# Altium schematic symbol library U.SchLib: 98 symbols (part 1 of 2)
Pins are listed as number, name and electrical type; pins without a type are passive.

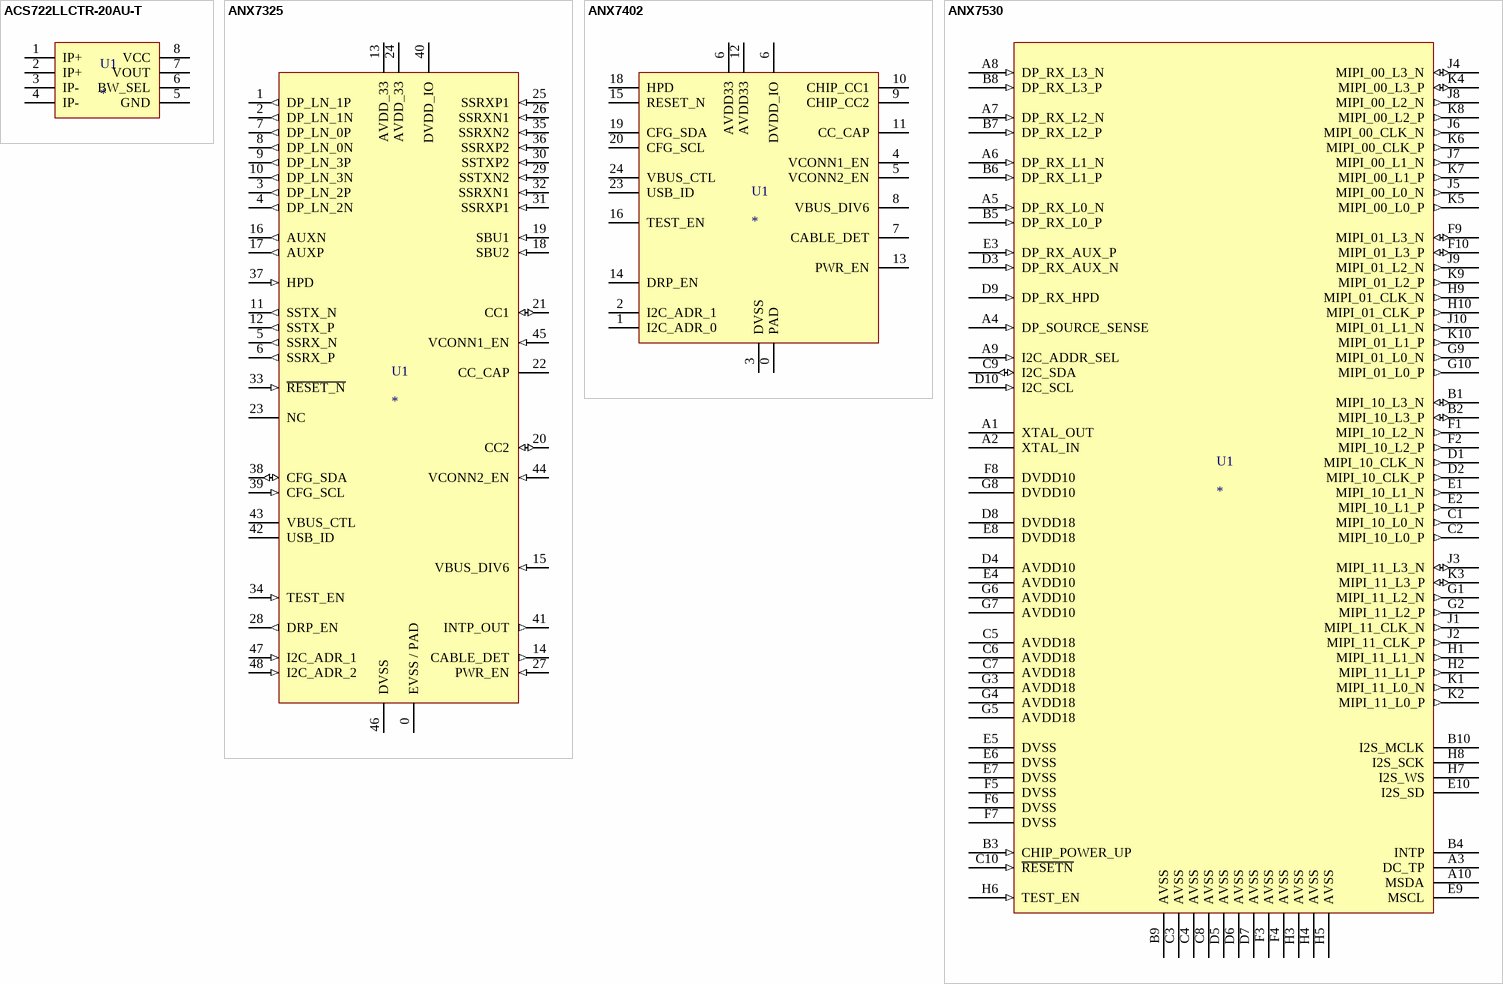
[diagram p0: symbols ACS722LLCTR-20AU-T to ANX7530]

## ACS722LLCTR-20AU-T
designator U1
20A Hall Current Sensor
footprint SOIC-8
pins: 1 IP+, 2 IP+, 3 IP-, 4 IP-, 5 GND, 6 BW_SEL, 7 VOUT, 8 VCC

## ANX7325
designator U1
USB-C™ Accessory/HDTV/Monitor Receptacle  Crosspoint Switch with On-chip  Microcontroller
footprint QFN-48 - P0.4mm (QFN48_0.4mm_Pitch)
pins: 0 EVSS / PAD, 1 DP_LN_1P (out), 2 DP_LN_1N (out), 3 DP_LN_2P (out), 4 DP_LN_2N (out), 5 SSRX_N (out), 6 SSRX_P (out), 7 DP_LN_0P (out), 8 DP_LN_0N (out), 9 DP_LN_3P (out), 10 DP_LN_3N (out), 11 SSTX_N (out), 12 SSTX_P (out), 13 AVDD_33 (power), 14 CABLE_DET (out), 15 VBUS_DIV6 (in), 16 AUXN (out), 17 AUXP (out), 18 SBU2 (in), 19 SBU1 (in), 20 CC2 (io), 21 CC1 (io), 22 CC_CAP, 23 NC, 24 AVDD_33 (power), 25 SSRXP1 (in), 26 SSRXN1 (in), 27 PWR_EN (in), 28 DRP_EN (out), 29 SSTXN2 (in), 30 SSTXP2 (in), 31 SSRXP1 (in), 32 SSRXN1 (in), 33 ~{RESET_N} (in), 34 TEST_EN (in), 35 SSRXN2 (in), 36 SSRXP2 (in), 37 HPD (in), 38 CFG_SDA (io), 39 CFG_SCL (in), 40 DVDD_IO (power), 41 INTP_OUT (out), 42 USB_ID, 43 VBUS_CTL, 44 VCONN2_EN (in), 45 VCONN1_EN (in), 46 DVSS, 47 I2C_ADR_1 (in), 48 I2C_ADR_2 (in)

## ANX7402
designator U1
USB PD Controller
footprint QFN-24 - P0.5mm (Quad Flat No Lead, Plastic; 24 Terminals; Body 4 x 4 mm; Pitch 0.5 mm)
pins: 0 PAD, 1 I2C_ADR_0, 2 I2C_ADR_1, 3 DVSS, 4 VCONN1_EN, 5 VCONN2_EN, 6 AVDD33, 6 DVDD_IO, 7 CABLE_DET, 8 VBUS_DIV6, 9 CHIP_CC2, 10 CHIP_CC1, 11 CC_CAP, 12 AVDD33, 13 PWR_EN, 14 DRP_EN, 15 RESET_N, 16 TEST_EN, 18 HPD, 19 CFG_SDA, 20 CFG_SCL, 23 USB_ID, 24 VBUS_CTL

## ANX7530
designator U1
SlimPort® (4K Ultra-HD) Receiver
footprint BGA-100 - P0.4MM
pins: A1 XTAL_OUT, A2 XTAL_IN, A3 DC_TP, A4 DP_SOURCE_SENSE (in), A5 DP_RX_L0_N (in), A6 DP_RX_L1_N (in), A7 DP_RX_L2_N (in), A8 DP_RX_L3_N (in), A9 I2C_ADDR_SEL (in), A10 MSDA, B1 MIPI_10_L3_N (io), B2 MIPI_10_L3_P (io), B3 CHIP_POWER_UP (in), B4 INTP, B5 DP_RX_L0_P (in), B6 DP_RX_L1_P (in), B7 DP_RX_L2_P (in), B8 DP_RX_L3_P (in), B9 AVSS, B10 I2S_MCLK, C1 MIPI_10_L0_N (out), C2 MIPI_10_L0_P (out), C3 AVSS, C4 AVSS, C5 AVDD18 (power), C6 AVDD18 (power), C7 AVDD18 (power), C8 AVSS, C9 I2C_SDA (io), C10 ~{RESETN} (in), D1  MIPI_10_CLK_N (out), D2 MIPI_10_CLK_P (out), D3 DP_RX_AUX_N (in), D4 AVDD10 (power), D5 AVSS, D6 AVSS, D7 AVSS, D8 DVDD18 (power), D9 DP_RX_HPD (in), D10 I2C_SCL (in), E1 MIPI_10_L1_N (out), E2 MIPI_10_L1_P (out), E3 DP_RX_AUX_P (in), E4 AVDD10 (power), E5 DVSS, E6 DVSS, E7 DVSS, E8 DVDD18 (power), E9 MSCL, E10 I2S_SD, F1 MIPI_10_L2_N (out), F2 MIPI_10_L2_P (out), F3 AVSS, F4 AVSS, F5 DVSS, F6 DVSS, F7 DVSS, F8 DVDD10 (power), F9 MIPI_01_L3_N (io), F10 MIPI_01_L3_P (io), G1 MIPI_11_L2_N (out), G2 MIPI_11_L2_P (out), G3 AVDD18 (power), G4 AVDD18 (power), G5 AVDD18 (power), G6 AVDD10 (power), G7 AVDD10 (power), G8 DVDD10 (power), G9 MIPI_01_L0_N (out), G10 MIPI_01_L0_P (out), H1 MIPI_11_L1_N (out), H2 MIPI_11_L1_P (out), H3 AVSS, H4 AVSS, H5 AVSS, H6 TEST_EN (in), H7 I2S_WS, H8 I2S_SCK, H9  MIPI_01_CLK_N (out), H10 MIPI_01_CLK_P (out), J1  MIPI_11_CLK_N (out), J2 MIPI_11_CLK_P (out), J3 MIPI_11_L3_N (io), J4 MIPI_00_L3_N (io), J5 MIPI_00_L0_N (out), J6  MIPI_00_CLK_N (out), J7 MIPI_00_L1_N (out), J8 MIPI_00_L2_N (out), J9 MIPI_01_L2_N (out), J10 MIPI_01_L1_N (out), K1 MIPI_11_L0_N (out), K2 MIPI_11_L0_P (out), K3 MIPI_11_L3_P (io), K4 MIPI_00_L3_P (io), K5 MIPI_00_L0_P (out), K6 MIPI_00_CLK_P (out), K7 MIPI_00_L1_P (out), K8 MIPI_00_L2_P (out), K9 MIPI_01_L2_P (out), K10 MIPI_01_L1_P (out)

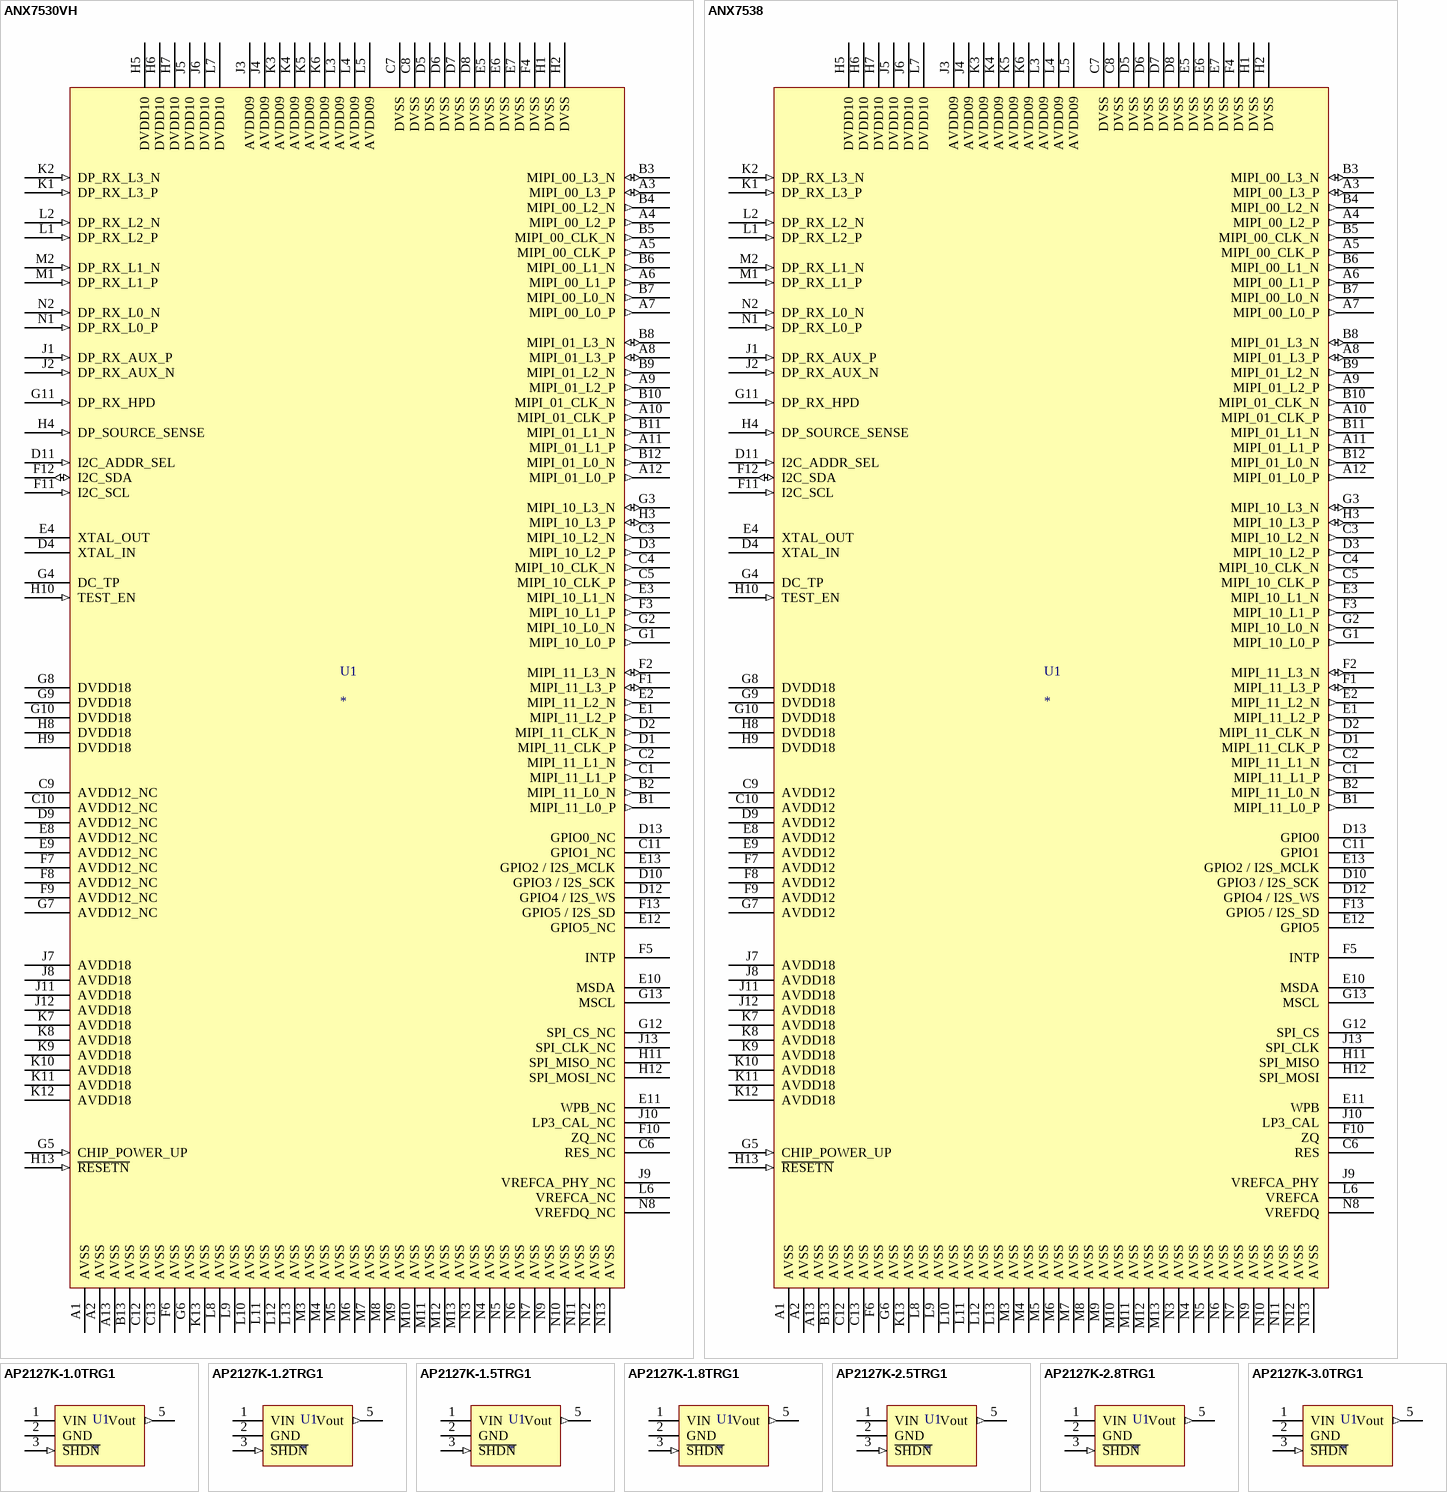
[diagram p1: symbols ANX7530VH to AP2127K-3.0TRG1]

## ANX7530VH
designator U1
SlimPort® (4K Ultra-HD) Receiver
footprint BGA-169 - P0.5MM (Wierd Analogix Part)
pins: A1 AVSS, A2 AVSS, A3 MIPI_00_L3_P (io), A4 MIPI_00_L2_P (out), A5 MIPI_00_CLK_P (out), A6 MIPI_00_L1_P (out), A7 MIPI_00_L0_P (out), A8 MIPI_01_L3_P (io), A9 MIPI_01_L2_P (out), A10 MIPI_01_CLK_P (out), A11 MIPI_01_L1_P (out), A12 MIPI_01_L0_P (out), A13 AVSS, B1 MIPI_11_L0_P (out), B2 MIPI_11_L0_N (out), B3 MIPI_00_L3_N (io), B4 MIPI_00_L2_N (out), B5  MIPI_00_CLK_N (out), B6 MIPI_00_L1_N (out), B7 MIPI_00_L0_N (out), B8 MIPI_01_L3_N (io), B9 MIPI_01_L2_N (out), B10  MIPI_01_CLK_N (out), B11 MIPI_01_L1_N (out), B12 MIPI_01_L0_N (out), B13 AVSS, C1 MIPI_11_L1_P (out), C2 MIPI_11_L1_N (out), C3 MIPI_10_L2_N (out), C4  MIPI_10_CLK_N (out), C5 MIPI_10_CLK_P (out), C6 RES_NC, C7 DVSS (power), C8 DVSS (power), C9 AVDD12_NC (power), C10 AVDD12_NC (power), C11 GPIO1_NC, C12 AVSS, C13 AVSS, D1 MIPI_11_CLK_P (out), D2  MIPI_11_CLK_N (out), D3 MIPI_10_L2_P (out), D4 XTAL_IN, D5 DVSS (power), D6 DVSS (power), D7 DVSS (power), D8 DVSS (power), D9 AVDD12_NC (power), D10 GPIO3 / I2S_SCK, D11 I2C_ADDR_SEL (in), D12 GPIO4 / I2S_WS, D13 GPIO0_NC, E1 MIPI_11_L2_P (out), E2 MIPI_11_L2_N (out), E3 MIPI_10_L1_N (out), E4 XTAL_OUT, E5 DVSS (power), E6 DVSS (power), E7 DVSS (power), E8 AVDD12_NC (power), E9 AVDD12_NC (power), E10 MSDA, E11 WPB_NC, E12 GPIO5_NC, E13 GPIO2 / I2S_MCLK, F1 MIPI_11_L3_P (io), F2 MIPI_11_L3_N (io), F3 MIPI_10_L1_P (out), F4 DVSS (power), F5 INTP, F6 AVSS, F7 AVDD12_NC (power), F8 AVDD12_NC (power), F9 AVDD12_NC (power), F10 ZQ_NC, F11 I2C_SCL (in), F12 I2C_SDA (io), F13 GPIO5 / I2S_SD, G1 MIPI_10_L0_P (out), G2 MIPI_10_L0_N (out), G3 MIPI_10_L3_N (io), G4 DC_TP, G5 CHIP_POWER_UP (in), G6 AVSS, G7 AVDD12_NC (power), G8 DVDD18 (power), G9 DVDD18 (power), G10 DVDD18 (power), G11 DP_RX_HPD (in), G12 SPI_CS_NC, G13 MSCL, H1 DVSS (power), H2 DVSS (power), H3 MIPI_10_L3_P (io), H4 DP_SOURCE_SENSE (in), H5 DVDD10 (power), H6 DVDD10 (power), H7 DVDD10 (power), H8 DVDD18 (power), H9 DVDD18 (power), H10 TEST_EN (in), H11 SPI_MISO_NC, H12 SPI_MOSI_NC, H13 ~{RESETN} (in), J1 DP_RX_AUX_P (in), J2 DP_RX_AUX_N (in), J3 AVDD09 (power), J4 AVDD09 (power), J5 DVDD10 (power), J6 DVDD10 (power), J7 AVDD18 (power), J8 AVDD18 (power), J9 VREFCA_PHY_NC, J10 LP3_CAL_NC, J11 AVDD18 (power), J12 AVDD18 (power), J13 SPI_CLK_NC, K1 DP_RX_L3_P (in), K2 DP_RX_L3_N (in), K3 AVDD09 (power), K4 AVDD09 (power), K5 AVDD09 (power), K6 AVDD09 (power), K7 AVDD18 (power), K8 AVDD18 (power), K9 AVDD18 (power), K10 AVDD18 (power), K11 AVDD18 (power), K12 AVDD18 (power), K13 AVSS, L1 DP_RX_L2_P (in), L2 DP_RX_L2_N (in), L3 AVDD09 (power), L4 AVDD09 (power), L5 AVDD09 (power), L6 VREFCA_NC, L7 DVDD10 (power), L8 AVSS, L9 AVSS, L10 AVSS, L11 AVSS, L12 AVSS, L13 AVSS, M1 DP_RX_L1_P (in), M2 DP_RX_L1_N (in), M3 AVSS, M4 AVSS, M5 AVSS, M6 AVSS, M7 AVSS, M8 AVSS, M9 AVSS, M10 AVSS, M11 AVSS, M12 AVSS, M13 AVSS, N1 DP_RX_L0_P (in), N2 DP_RX_L0_N (in), N3 AVSS, N4 AVSS, N5 AVSS, N6 AVSS, N7 AVSS, N8 VREFDQ_NC, N9 AVSS, N10 AVSS, N11 AVSS, N12 AVSS, N13 AVSS

## ANX7538
designator U1
SlimPort® (4K Ultra-HD) Receiver
footprint BGA-169 - P0.5MM (Wierd Analogix Part)
pins: A1 AVSS, A2 AVSS, A3 MIPI_00_L3_P (io), A4 MIPI_00_L2_P (out), A5 MIPI_00_CLK_P (out), A6 MIPI_00_L1_P (out), A7 MIPI_00_L0_P (out), A8 MIPI_01_L3_P (io), A9 MIPI_01_L2_P (out), A10 MIPI_01_CLK_P (out), A11 MIPI_01_L1_P (out), A12 MIPI_01_L0_P (out), A13 AVSS, B1 MIPI_11_L0_P (out), B2 MIPI_11_L0_N (out), B3 MIPI_00_L3_N (io), B4 MIPI_00_L2_N (out), B5  MIPI_00_CLK_N (out), B6 MIPI_00_L1_N (out), B7 MIPI_00_L0_N (out), B8 MIPI_01_L3_N (io), B9 MIPI_01_L2_N (out), B10  MIPI_01_CLK_N (out), B11 MIPI_01_L1_N (out), B12 MIPI_01_L0_N (out), B13 AVSS, C1 MIPI_11_L1_P (out), C2 MIPI_11_L1_N (out), C3 MIPI_10_L2_N (out), C4  MIPI_10_CLK_N (out), C5 MIPI_10_CLK_P (out), C6 RES, C7 DVSS (power), C8 DVSS (power), C9 AVDD12 (power), C10 AVDD12 (power), C11 GPIO1, C12 AVSS, C13 AVSS, D1 MIPI_11_CLK_P (out), D2  MIPI_11_CLK_N (out), D3 MIPI_10_L2_P (out), D4 XTAL_IN, D5 DVSS (power), D6 DVSS (power), D7 DVSS (power), D8 DVSS (power), D9 AVDD12 (power), D10 GPIO3 / I2S_SCK, D11 I2C_ADDR_SEL (in), D12 GPIO4 / I2S_WS, D13 GPIO0, E1 MIPI_11_L2_P (out), E2 MIPI_11_L2_N (out), E3 MIPI_10_L1_N (out), E4 XTAL_OUT, E5 DVSS (power), E6 DVSS (power), E7 DVSS (power), E8 AVDD12 (power), E9 AVDD12 (power), E10 MSDA, E11 WPB, E12 GPIO5, E13 GPIO2 / I2S_MCLK, F1 MIPI_11_L3_P (io), F2 MIPI_11_L3_N (io), F3 MIPI_10_L1_P (out), F4 DVSS (power), F5 INTP, F6 AVSS, F7 AVDD12 (power), F8 AVDD12 (power), F9 AVDD12 (power), F10 ZQ, F11 I2C_SCL (in), F12 I2C_SDA (io), F13 GPIO5 / I2S_SD, G1 MIPI_10_L0_P (out), G2 MIPI_10_L0_N (out), G3 MIPI_10_L3_N (io), G4 DC_TP, G5 CHIP_POWER_UP (in), G6 AVSS, G7 AVDD12 (power), G8 DVDD18 (power), G9 DVDD18 (power), G10 DVDD18 (power), G11 DP_RX_HPD (in), G12 SPI_CS, G13 MSCL, H1 DVSS (power), H2 DVSS (power), H3 MIPI_10_L3_P (io), H4 DP_SOURCE_SENSE (in), H5 DVDD10 (power), H6 DVDD10 (power), H7 DVDD10 (power), H8 DVDD18 (power), H9 DVDD18 (power), H10 TEST_EN (in), H11 SPI_MISO, H12 SPI_MOSI, H13 ~{RESETN} (in), J1 DP_RX_AUX_P (in), J2 DP_RX_AUX_N (in), J3 AVDD09 (power), J4 AVDD09 (power), J5 DVDD10 (power), J6 DVDD10 (power), J7 AVDD18 (power), J8 AVDD18 (power), J9 VREFCA_PHY, J10 LP3_CAL, J11 AVDD18 (power), J12 AVDD18 (power), J13 SPI_CLK, K1 DP_RX_L3_P (in), K2 DP_RX_L3_N (in), K3 AVDD09 (power), K4 AVDD09 (power), K5 AVDD09 (power), K6 AVDD09 (power), K7 AVDD18 (power), K8 AVDD18 (power), K9 AVDD18 (power), K10 AVDD18 (power), K11 AVDD18 (power), K12 AVDD18 (power), K13 AVSS, L1 DP_RX_L2_P (in), L2 DP_RX_L2_N (in), L3 AVDD09 (power), L4 AVDD09 (power), L5 AVDD09 (power), L6 VREFCA, L7 DVDD10 (power), L8 AVSS, L9 AVSS, L10 AVSS, L11 AVSS, L12 AVSS, L13 AVSS, M1 DP_RX_L1_P (in), M2 DP_RX_L1_N (in), M3 AVSS, M4 AVSS, M5 AVSS, M6 AVSS, M7 AVSS, M8 AVSS, M9 AVSS, M10 AVSS, M11 AVSS, M12 AVSS, M13 AVSS, N1 DP_RX_L0_P (in), N2 DP_RX_L0_N (in), N3 AVSS, N4 AVSS, N5 AVSS, N6 AVSS, N7 AVSS, N8 VREFDQ, N9 AVSS, N10 AVSS, N11 AVSS, N12 AVSS, N13 AVSS

## AP2127K-1.0TRG1
designator U1
LDO Voltage Regulators 300mA
footprint SOT-23-5 (SOT-23-5 Leads; Body 3.1 x 3 mm, inc. leads (LxW max))
pins: 1 VIN (power), 2 GND, 3 ~{SHDN} (in), 5 Vout (out)

## AP2127K-1.2TRG1
designator U1
LDO Voltage Regulators 300mA
footprint SOT-353-5 (5 Leads; Body 2.1 x 2.4 mm, inc. leads (LxW max))
pins: 1 VIN (power), 2 GND, 3 ~{SHDN} (in), 5 Vout (out)

## AP2127K-1.5TRG1
designator U1
LDO Voltage Regulators 300mA
footprint SOT-353-5 (5 Leads; Body 2.1 x 2.4 mm, inc. leads (LxW max))
pins: 1 VIN (power), 2 GND, 3 ~{SHDN} (in), 5 Vout (out)

## AP2127K-1.8TRG1
designator U1
LDO Voltage Regulators 300mA
footprint SOT-23-5 (SOT-23-5 Leads; Body 3.1 x 3 mm, inc. leads (LxW max))
pins: 1 VIN (power), 2 GND, 3 ~{SHDN} (in), 5 Vout (out)

## AP2127K-2.5TRG1
designator U1
LDO Voltage Regulators 300mA
footprint SOT-353-5 (5 Leads; Body 2.1 x 2.4 mm, inc. leads (LxW max))
pins: 1 VIN (power), 2 GND, 3 ~{SHDN} (in), 5 Vout (out)

## AP2127K-2.8TRG1
designator U1
LDO Voltage Regulators 300mA
footprint SOT-353-5 (5 Leads; Body 2.1 x 2.4 mm, inc. leads (LxW max))
pins: 1 VIN (power), 2 GND, 3 ~{SHDN} (in), 5 Vout (out)

## AP2127K-3.0TRG1
designator U1
LDO Voltage Regulators 300mA
footprint SOT-353-5 (5 Leads; Body 2.1 x 2.4 mm, inc. leads (LxW max))
pins: 1 VIN (power), 2 GND, 3 ~{SHDN} (in), 5 Vout (out)

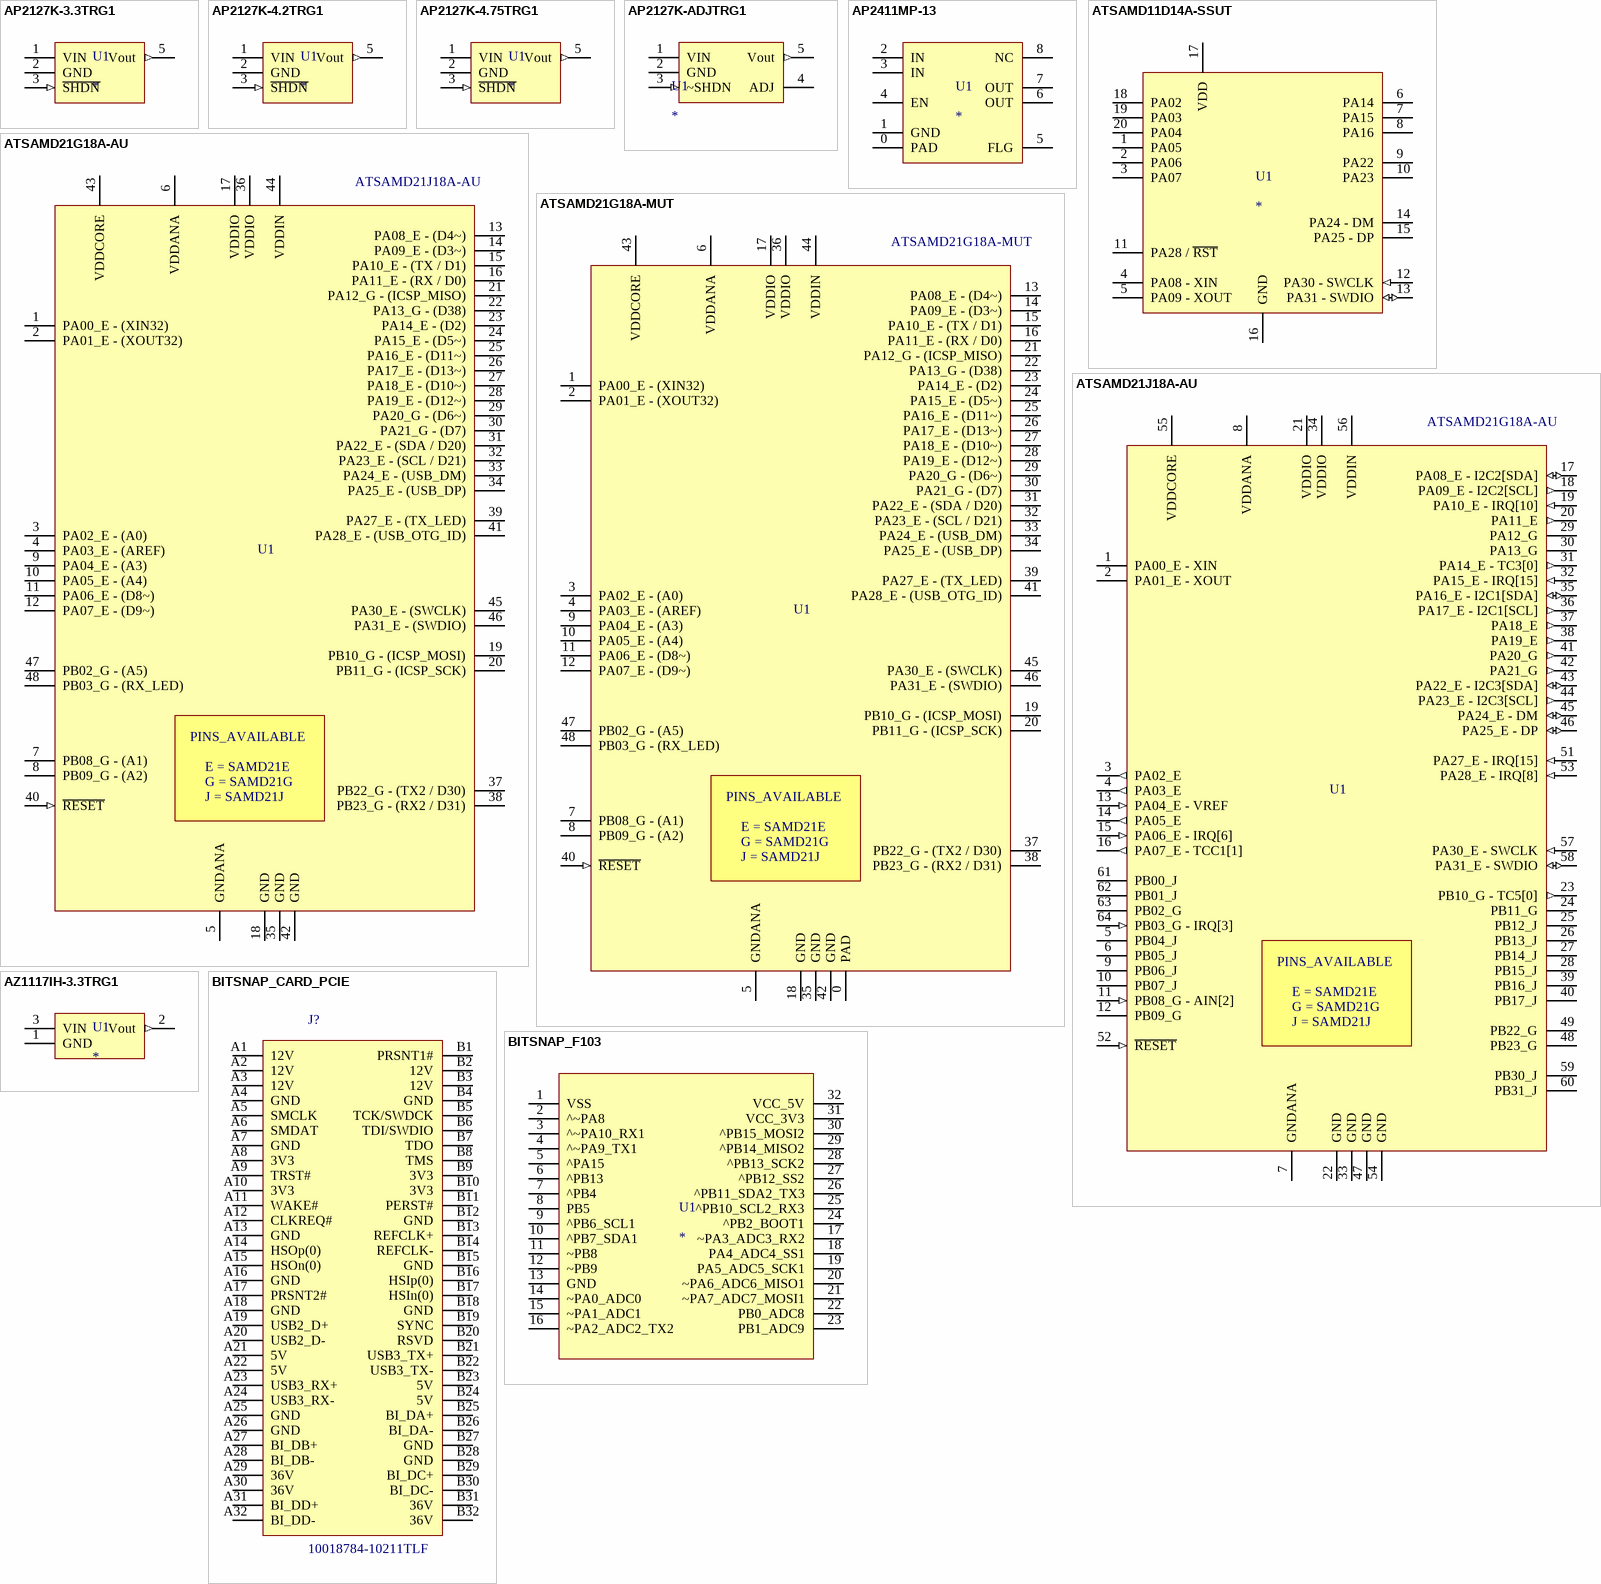
[diagram p2: symbols AP2127K-3.3TRG1 to BITSNAP_F103]

## AP2127K-3.3TRG1
designator U1
LDO Voltage Regulators 300mA
footprint SOT-23-5 (SOT-23-5 Leads; Body 3.1 x 3 mm, inc. leads (LxW max))
pins: 1 VIN (power), 2 GND, 3 ~{SHDN} (in), 5 Vout (out)

## AP2127K-4.2TRG1
designator U1
LDO Voltage Regulators 300mA
footprint SOT-353-5 (5 Leads; Body 2.1 x 2.4 mm, inc. leads (LxW max))
pins: 1 VIN (power), 2 GND, 3 ~{SHDN} (in), 5 Vout (out)

## AP2127K-4.75TRG1
designator U1
LDO Voltage Regulators 300mA
footprint SOT-353-5 (5 Leads; Body 2.1 x 2.4 mm, inc. leads (LxW max))
pins: 1 VIN (power), 2 GND, 3 ~{SHDN} (in), 5 Vout (out)

## AP2127K-ADJTRG1
designator U1
LDO Voltage Regulators 300mA
footprint SOT-353-5 (5 Leads; Body 2.1 x 2.4 mm, inc. leads (LxW max))
pins: 1 VIN (power), 2 GND, 3 ~SHDN (in), 4 ADJ (power), 5 Vout (out)

## AP2411MP-13
designator U1
Power Distribution USB Power Switch
footprint MSOP-8-EP - 0.65mm
pins: 0 PAD, 1 GND, 2 IN, 3 IN, 4 EN, 5 FLG, 6 OUT, 7 OUT, 8 NC

## ATSAMD11D14A-SSUT
designator U1
ARM Microcontrollers - MCU IC MCU 32 BIT 16KB Flash SOIC
footprint SOIC-20 - W7.5mm (Small Outline; 20 Leads; Body Width 7.5 mm; Pitch 1.27 mm)
pins: 1 PA05, 2 PA06, 3 PA07, 4 PA08 - XIN, 5 PA09 - XOUT, 6 PA14, 7 PA15, 8 PA16, 9 PA22, 10 PA23, 11 PA28 / ~{RST}, 12 PA30 - SWCLK (in), 13 PA31 - SWDIO (io), 14 PA24 - DM, 15 PA25 - DP, 16 GND, 17 VDD, 18 PA02, 19 PA03, 20 PA04

## ATSAMD21G18A-AU
designator U1  value ATSAMD21J18A-AU  (hidden comment: *)
SMART ARM-Based Microcontroller
footprint QFP-48 - P0.5MM (QFP; 48 Leads; Body 7 x 7 mm; Pitch 0.5 mm)
pins: 1 PA00_E - (XIN32), 2 PA01_E - (XOUT32), 3 PA02_E - (A0), 4 PA03_E - (AREF), 5 GNDANA, 6 VDDANA (power), 7 PB08_G - (A1), 8 PB09_G - (A2), 9 PA04_E - (A3), 10 PA05_E - (A4), 11 PA06_E - (D8~), 12 PA07_E - (D9~), 13 PA08_E - (D4~), 14 PA09_E - (D3~), 15 PA10_E - (TX / D1), 16 PA11_E - (RX / D0), 17 VDDIO (power), 18 GND, 19 PB10_G - (ICSP_MOSI), 20 PB11_G - (ICSP_SCK), 21 PA12_G - (ICSP_MISO), 22 PA13_G - (D38), 23 PA14_E - (D2), 24 PA15_E - (D5~), 25 PA16_E - (D11~), 26 PA17_E - (D13~), 27 PA18_E - (D10~), 28 PA19_E - (D12~), 29 PA20_G - (D6~), 30 PA21_G - (D7), 31 PA22_E - (SDA / D20), 32 PA23_E - (SCL / D21), 33 PA24_E - (USB_DM), 34 PA25_E - (USB_DP), 35 GND, 36 VDDIO (power), 37 PB22_G - (TX2 / D30), 38 PB23_G - (RX2 / D31), 39 PA27_E - (TX_LED), 40 ~{RESET} (in), 41 PA28_E - (USB_OTG_ID), 42 GND, 43 VDDCORE (power), 44 VDDIN (power), 45 PA30_E - (SWCLK), 46 PA31_E - (SWDIO), 47 PB02_G - (A5), 48 PB03_G - (RX_LED)
text: PINS_AVAILABLE; E = SAMD21E; G = SAMD21G; J = SAMD21J

## ATSAMD21G18A-MUT
designator U1  value ATSAMD21G18A-MUT  (hidden comment: *)
SMART ARM-Based Microcontroller
footprint QFN-48 - P0.5MM (QFN; 48 Leads; Body 7 x 7 mm; Pitch 0.5 mm)
pins: 0 PAD, 1 PA00_E - (XIN32), 2 PA01_E - (XOUT32), 3 PA02_E - (A0), 4 PA03_E - (AREF), 5 GNDANA, 6 VDDANA (power), 7 PB08_G - (A1), 8 PB09_G - (A2), 9 PA04_E - (A3), 10 PA05_E - (A4), 11 PA06_E - (D8~), 12 PA07_E - (D9~), 13 PA08_E - (D4~), 14 PA09_E - (D3~), 15 PA10_E - (TX / D1), 16 PA11_E - (RX / D0), 17 VDDIO (power), 18 GND, 19 PB10_G - (ICSP_MOSI), 20 PB11_G - (ICSP_SCK), 21 PA12_G - (ICSP_MISO), 22 PA13_G - (D38), 23 PA14_E - (D2), 24 PA15_E - (D5~), 25 PA16_E - (D11~), 26 PA17_E - (D13~), 27 PA18_E - (D10~), 28 PA19_E - (D12~), 29 PA20_G - (D6~), 30 PA21_G - (D7), 31 PA22_E - (SDA / D20), 32 PA23_E - (SCL / D21), 33 PA24_E - (USB_DM), 34 PA25_E - (USB_DP), 35 GND, 36 VDDIO (power), 37 PB22_G - (TX2 / D30), 38 PB23_G - (RX2 / D31), 39 PA27_E - (TX_LED), 40 ~{RESET} (in), 41 PA28_E - (USB_OTG_ID), 42 GND, 43 VDDCORE (power), 44 VDDIN (power), 45 PA30_E - (SWCLK), 46 PA31_E - (SWDIO), 47 PB02_G - (A5), 48 PB03_G - (RX_LED)
text: PINS_AVAILABLE; E = SAMD21E; G = SAMD21G; J = SAMD21J

## ATSAMD21J18A-AU
designator U1  value ATSAMD21G18A-AU  (hidden comment: *)
SMART ARM-Based Microcontroller
footprint QFP-64 - P0.5MM (64-Pin Plastic Quad Flat Pack (TQFP))
pins: 1 PA00_E - XIN, 2 PA01_E - XOUT, 3 PA02_E (out), 4 PA03_E (out), 5 PB04_J, 6 PB05_J, 7 GNDANA, 8 VDDANA (power), 9 PB06_J, 10 PB07_J, 11 PB08_G - AIN[2] (in), 12 PB09_G, 13 PA04_E - VREF (in), 14 PA05_E (out), 15 PA06_E - IRQ[6] (in), 16 PA07_E - TCC1[1] (out), 17 PA08_E - I2C2[SDA] (io), 18 PA09_E - I2C2[SCL] (out), 19 PA10_E - IRQ[10] (in), 20 PA11_E (out), 21 VDDIO (power), 22 GND, 23 PB10_G - TC5[0] (out), 24 PB11_G, 25 PB12_J, 26 PB13_J, 27 PB14_J, 28 PB15_J, 29 PA12_G, 30 PA13_G, 31 PA14_E - TC3[0] (out), 32 PA15_E - IRQ[15] (in), 33 GND, 34 VDDIO (power), 35 PA16_E - I2C1[SDA] (io), 36 PA17_E - I2C1[SCL] (out), 37 PA18_E (out), 38 PA19_E (out), 39 PB16_J, 40 PB17_J, 41 PA20_G (out), 42 PA21_G (out), 43 PA22_E - I2C3[SDA] (io), 44 PA23_E - I2C3[SCL] (out), 45 PA24_E - DM (io), 46 PA25_E - DP (io), 47 GND, 48 PB23_G, 49 PB22_G, 51 PA27_E - IRQ[15] (in), 52 ~{RESET} (in), 53 PA28_E - IRQ[8] (in), 54 GND, 55 VDDCORE (power), 56 VDDIN (power), 57 PA30_E - SWCLK (in), 58 PA31_E - SWDIO (io), 59 PB30_J, 60 PB31_J, 61 PB00_J, 62 PB01_J, 63 PB02_G, 64 PB03_G - IRQ[3] (in)
text: PINS_AVAILABLE; E = SAMD21E; G = SAMD21G; J = SAMD21J

## AZ1117IH-3.3TRG1
designator U1
LDO Voltage Regulators 300mA
footprint SOT-223 (SOT223, 4-Leads, Body 6.5x3.5mm, Pitch 2.3mm, Lead Span 7mm, IPC High Density)
pins: 1 GND, 2 Vout (out), 3 VIN (power)

## BITSNAP_CARD_PCIE
designator J?, comment 10018784-10211TLF
PCIE x4 Vertical 1.00mm Card; MP: PCIE-064-02-X-D-TH; MF: Samtec; Package: None; Price: None; Availability: Unavailable; Value: *
footprint 10018784-10211TLF (PCIE x4 Vertical)
footprint BITSNAP_CARD_10018784-10211TLF (PCIE x4 Vertical With BITSNAP CARD)
pins: A1 12V, A2 12V, A3 12V, A4 GND, A5 SMCLK, A6 SMDAT, A7 GND, A8 3V3, A9 TRST#, A10 3V3, A11 WAKE#, A12 CLKREQ#, A13 GND, A14 HSOp(0), A15 HSOn(0), A16 GND, A17 PRSNT2#, A18 GND, A19 USB2_D+, A20 USB2_D-, A21 5V, A22 5V, A23 USB3_RX+, A24 USB3_RX-, A25 GND, A26 GND, A27 BI_DB+, A28 BI_DB-, A29 36V, A30 36V, A31 BI_DD+, A32 BI_DD-, B1 PRSNT1#, B2 12V, B3 12V, B4 GND, B5 TCK/SWDCK, B6 TDI/SWDIO, B7 TDO, B8 TMS, B9 3V3, B10 3V3, B11 PERST#, B12 GND, B13 REFCLK+, B14 REFCLK-, B15 GND, B16 HSIp(0), B17 HSIn(0), B18 GND, B19 SYNC, B20 RSVD, B21 USB3_TX+, B22 USB3_TX-, B23 5V, B24 5V, B25 BI_DA+, B26 BI_DA-, B27 GND, B28 GND, B29 BI_DC+, B30 BI_DC-, B31 36V, B32 36V

## BITSNAP_F103
designator U1
BITSNAP STM32103
footprint SNAP_F103
pins: 1 VSS, 2 ^~PA8, 3 ^~PA10_RX1, 4 ^~PA9_TX1, 5 ^PA15, 6 ^PB13, 7 ^PB4, 8 PB5, 9 ^PB6_SCL1, 10 ^PB7_SDA1, 11 ~PB8, 12 ~PB9, 13 GND, 14 ~PA0_ADC0, 15 ~PA1_ADC1, 16 ~PA2_ADC2_TX2, 17 ~PA3_ADC3_RX2, 18 PA4_ADC4_SS1, 19 PA5_ADC5_SCK1, 20 ~PA6_ADC6_MISO1, 21 ~PA7_ADC7_MOSI1, 22 PB0_ADC8, 23 PB1_ADC9, 24 ^PB2_BOOT1, 25 ^PB10_SCL2_RX3, 26 ^PB11_SDA2_TX3, 27 ^PB12_SS2, 28 ^PB13_SCK2, 29 ^PB14_MISO2, 30 ^PB15_MOSI2, 31 VCC_3V3, 32 VCC_5V

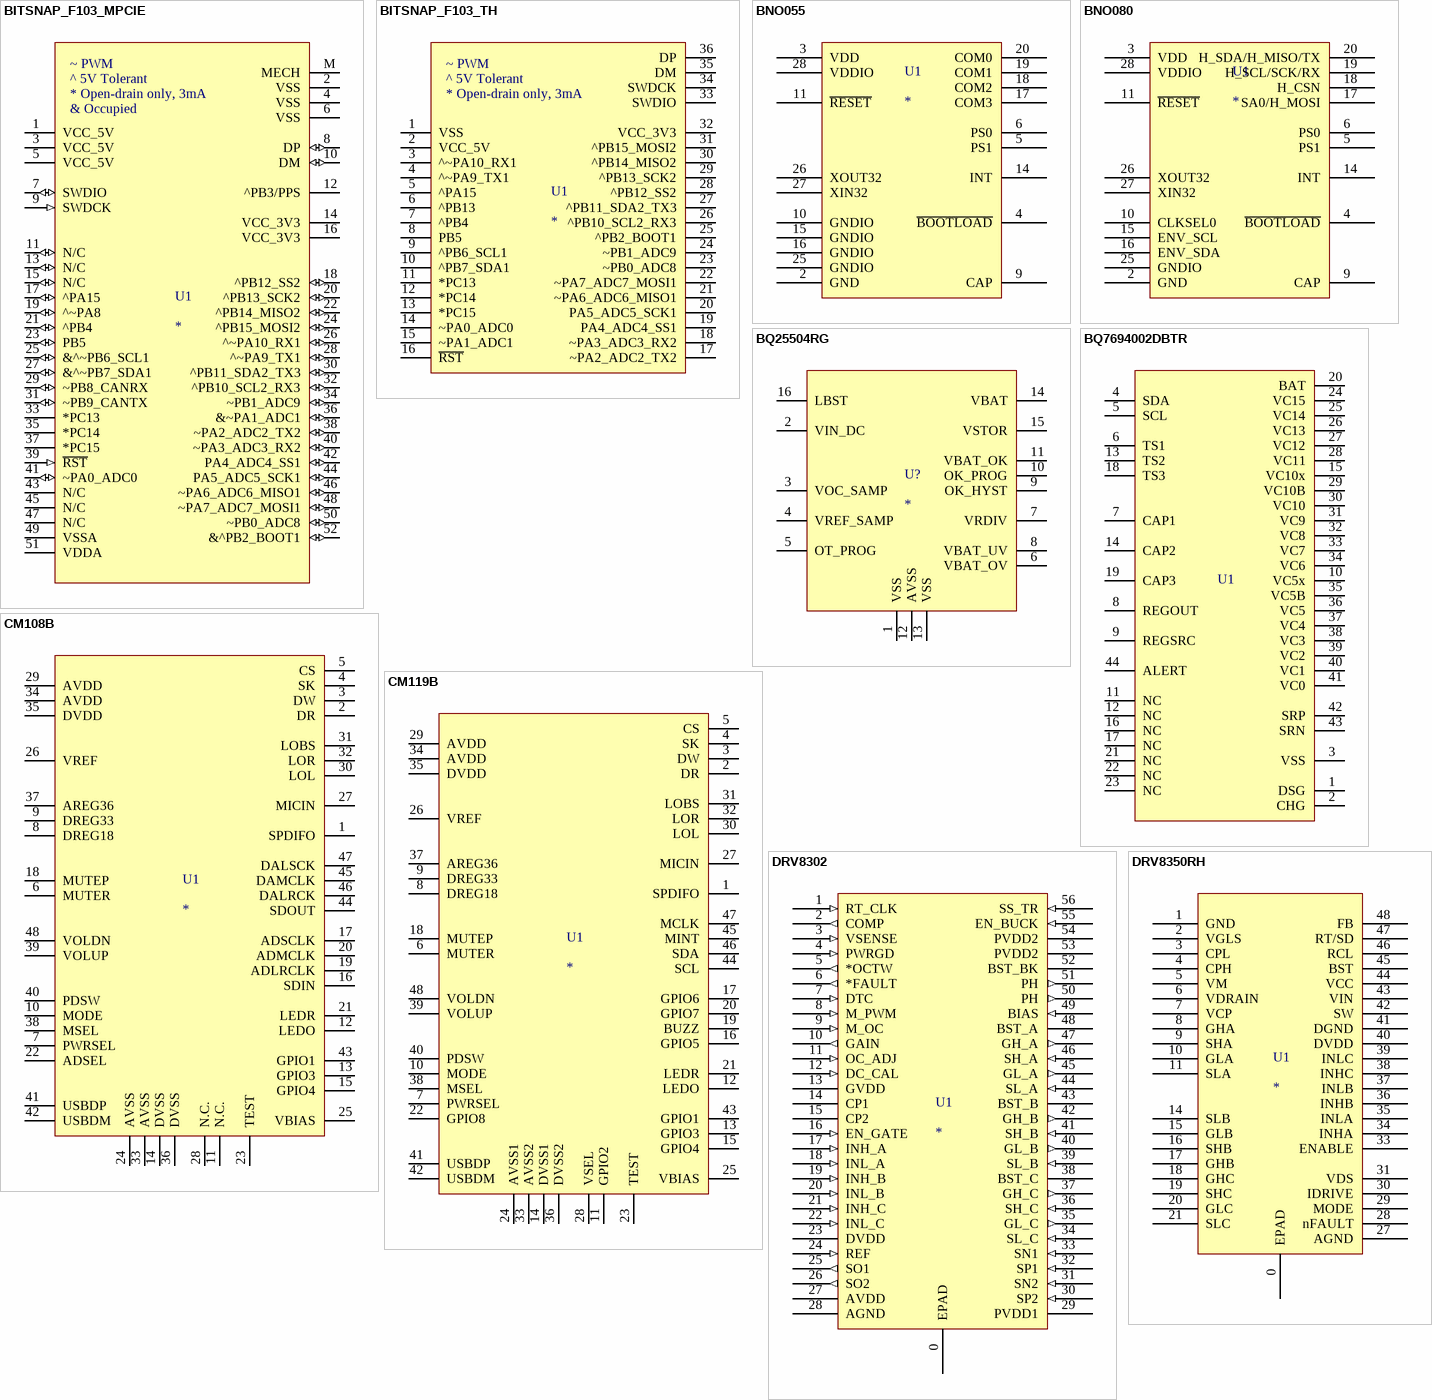
[diagram p3: symbols BITSNAP_F103_MPCIE to DRV8350RH]

## BITSNAP_F103_MPCIE
designator U1
BITSNAP STM32103 Through Hole
footprint BITSNAP_CPU (Bitsnap, mPCIE)
pins: 1 VCC_5V, 2 VSS, 3 VCC_5V, 4 VSS, 5 VCC_5V, 6 VSS, 7 SWDIO (io), 8 DP (io), 9 SWDCK (in), 10 DM (io), 11 N/C (io), 12 ^PB3/PPS, 13 N/C (io), 14 VCC_3V3, 15 N/C (io), 16 VCC_3V3, 17 ^PA15 (io), 18 ^PB12_SS2 (io), 19 ^~PA8 (io), 20 ^PB13_SCK2 (io), 21 ^PB4 (io), 22 ^PB14_MISO2 (io), 23 PB5 (io), 24 ^PB15_MOSI2 (io), 25 &^~PB6_SCL1 (io), 26 ^~PA10_RX1 (io), 27 &^~PB7_SDA1 (io), 28 ^~PA9_TX1 (io), 29 ~PB8_CANRX (io), 30 ^PB11_SDA2_TX3 (io), 31 ~PB9_CANTX (io), 32 ^PB10_SCL2_RX3 (io), 33 *PC13 (oc), 34 ~PB1_ADC9 (io), 35 *PC14 (oc), 36 &~PA1_ADC1 (io), 37 *PC15 (oc), 38 ~PA2_ADC2_TX2 (io), 39 ~{RST} (in), 40 ~PA3_ADC3_RX2 (io), 41 ~PA0_ADC0 (io), 42 PA4_ADC4_SS1 (io), 43 N/C, 44 PA5_ADC5_SCK1 (io), 45 N/C, 46 ~PA6_ADC6_MISO1 (io), 47 N/C, 48 ~PA7_ADC7_MOSI1 (io), 49 VSSA, 50 ~PB0_ADC8 (io), 51 VDDA, 52 &^PB2_BOOT1 (io), M MECH
text: ~ PWM; ^ 5V Tolerant; * Open-drain only, 3mA; & Occupied

## BITSNAP_F103_TH
designator U1
BITSNAP STM32103 Through Hole
footprint SNAP_F103_TH - 20mm
footprint SNAP_F103_TH - 20mm - Extended Pads
pins: 1 VSS, 2 VCC_5V, 3 ^~PA10_RX1, 4 ^~PA9_TX1, 5 ^PA15, 6 ^PB13, 7 ^PB4, 8 PB5, 9 ^PB6_SCL1, 10 ^PB7_SDA1, 11 *PC13, 12 *PC14, 13 *PC15, 14 ~PA0_ADC0, 15 ~PA1_ADC1, 16 ~{RST}, 17 ~PA2_ADC2_TX2, 18 ~PA3_ADC3_RX2, 19 PA4_ADC4_SS1, 20 PA5_ADC5_SCK1, 21 ~PA6_ADC6_MISO1, 22 ~PA7_ADC7_MOSI1, 23 ~PB0_ADC8, 24 ~PB1_ADC9, 25 ^PB2_BOOT1, 26 ^PB10_SCL2_RX3, 27 ^PB11_SDA2_TX3, 28 ^PB12_SS2, 29 ^PB13_SCK2, 30 ^PB14_MISO2, 31 ^PB15_MOSI2, 32 VCC_3V3, 33 SWDIO, 34 SWDCK, 35 DM, 36 DP
text: ~ PWM; ^ 5V Tolerant; * Open-drain only, 3mA

## BNO055
designator U1
9 Axis Orientation Sensor
footprint LGA-28 - P0.5MM (BOSCH Sensortec)
pins: 2 GND, 3 VDD, 4 ~{BOOTL}~{OAD}, 5 PS1, 6 PS0, 9 CAP, 10 GNDIO, 11 ~{RESET}, 14 INT, 15 GNDIO, 16 GNDIO, 17 COM3, 18 COM2, 19 COM1, 20 COM0, 25 GNDIO, 26 XOUT32, 27 XIN32, 28 VDDIO

## BNO080
designator U1
9 Axis Orientation Sensor
footprint LGA-28 - P0.5MM (BOSCH Sensortec)
pins: 2 GND, 3 VDD, 4 ~{BOOTL}~{OAD}, 5 PS1, 6 PS0, 9 CAP, 10 CLKSEL0, 11 ~{RESET}, 14 INT, 15 ENV_SCL, 16 ENV_SDA, 17 SA0/H_MOSI, 18 H_CSN, 19 H_SCL/SCK/RX, 20 H_SDA/H_MISO/TX, 25 GNDIO, 26 XOUT32, 27 XIN32, 28 VDDIO

## BQ25504RG
designator U?
Ultra Low-Power Boost ConverterWith Battery Management for Energy Harvester Applications
footprint QFN-16 - P0.5MM (Quad Flat No Lead, Plastic; 16 Terminals; Body 3 x 3 mm; Pitch 0.5 mm)
pins: 1 VSS, 2 VIN_DC, 3 VOC_SAMP (power), 4 VREF_SAMP, 5 OT_PROG, 6 VBAT_OV, 7 VRDIV, 8 VBAT_UV, 9 OK_HYST, 10 OK_PROG, 11 VBAT_OK, 12 AVSS, 13 VSS, 14 VBAT, 15 VSTOR, 16 LBST

## BQ7694002DBTR
designator U1  (value not drawn)
9 to 15-series cell li-ion and li-phosphate battery monitor (bq76940 family)
footprint TSSOP50P580X150-44N (TSSOP, 44-Leads, Body 10.55x4.00mm, Pitch 0.50mm, IPC Medium Density)
pins: 1 DSG, 2 CHG, 3 VSS, 4 SDA, 5 SCL, 6 TS1, 7 CAP1, 8 REGOUT, 9 REGSRC, 10 VC5x, 11 NC, 12 NC, 13 TS2, 14 CAP2, 15 VC10x, 16 NC, 17 NC, 18 TS3, 19 CAP3, 20 BAT, 21 NC, 22 NC, 23 NC, 24 VC15, 25 VC14, 26 VC13, 27 VC12, 28 VC11, 29 VC10B, 30 VC10, 31 VC9, 32 VC8, 33 VC7, 34 VC6, 35 VC5B, 36 VC5, 37 VC4, 38 VC3, 39 VC2, 40 VC1, 41 VC0, 42 SRP, 43 SRN, 44 ALERT

## CM108B
designator U1
USB Audio CODEC
footprint QFP-48 - P0.5MM (QFP; 48 Leads; Body 7 x 7 mm; Pitch 0.5 mm)
pins: 1 SPDIFO, 2 DR, 3 DW, 4 SK, 5 CS, 6 MUTER, 7 PWRSEL, 8 DREG18, 9 DREG33, 10 MODE, 11 N.C., 12 LEDO, 13 GPIO3, 14 DVSS, 15 GPIO4, 16 SDIN, 17 ADSCLK, 18 MUTEP, 19 ADLRCLK, 20 ADMCLK, 21 LEDR, 22 ADSEL, 23 TEST, 24 AVSS, 25 VBIAS, 26 VREF, 27 MICIN, 28 N.C., 29 AVDD, 30 LOL, 31 LOBS, 32 LOR, 33 AVSS, 34 AVDD, 35 DVDD, 36 DVSS, 37 AREG36, 38 MSEL, 39 VOLUP, 40 PDSW, 41 USBDP, 42 USBDM, 43 GPIO1, 44 SDOUT, 45 DAMCLK, 46 DALRCK, 47 DALSCK, 48 VOLDN

## CM119B
designator U1
USB Audio CODEC
footprint QFP-48 - P0.5MM (QFP; 48 Leads; Body 7 x 7 mm; Pitch 0.5 mm)
pins: 1 SPDIFO, 2 DR, 3 DW, 4 SK, 5 CS, 6 MUTER, 7 PWRSEL, 8 DREG18, 9 DREG33, 10 MODE, 11 GPIO2, 12 LEDO, 13 GPIO3, 14 DVSS1, 15 GPIO4, 16 GPIO5, 17 GPIO6, 18 MUTEP, 19 BUZZ, 20 GPIO7, 21 LEDR, 22 GPIO8, 23 TEST, 24 AVSS1, 25 VBIAS, 26 VREF, 27 MICIN, 28 VSEL, 29 AVDD, 30 LOL, 31 LOBS, 32 LOR, 33 AVSS2, 34 AVDD, 35 DVDD, 36 DVSS2, 37 AREG36, 38 MSEL, 39 VOLUP, 40 PDSW, 41 USBDP, 42 USBDM, 43 GPIO1, 44 SCL, 45 MINT, 46 SDA, 47 MCLK, 48 VOLDN

## DRV8302
designator U1
60V Three Phase Gate Driver With Dual Current Shunt Amplifiers and  Buck Regulator
footprint HTSSOP-56-EP (DRV830X)
pins: 0 EPAD, 1 RT_CLK (in), 2 COMP (out), 3 VSENSE (in), 4 PWRGD (in), 5 *OCTW (out), 6 *FAULT (out), 7 DTC (in), 8 M_PWM (in), 9 M_OC (in), 10 GAIN (out), 11 OC_ADJ (in), 12 DC_CAL (in), 13 GVDD (power), 14 CP1 (power), 15 CP2 (power), 16 EN_GATE (in), 17 INH_A (in), 18 INL_A (in), 19 INH_B (in), 20 INL_B (in), 21 INH_C (in), 22 INL_C (in), 23 DVDD (power), 24 REF (in), 25 SO1 (out), 26 SO2 (out), 27 AVDD (power), 28 AGND (power), 29 PVDD1 (power), 30 SP2 (in), 31 SN2 (in), 32 SP1 (in), 33 SN1 (in), 34 SL_C (in), 35 GL_C (out), 36 SH_C (in), 37 GH_C (out), 38 BST_C (power), 39 SL_B (in), 40 GL_B (out), 41 SH_B (in), 42 GH_B (out), 43 BST_B (power), 44 SL_A (in), 45 GL_A (out), 46 SH_A (in), 47 GH_A (out), 48 BST_A (power), 49 BIAS (in), 50 PH (out), 51 PH (out), 52 BST_BK (power), 53 PVDD2 (power), 54 PVDD2 (power), 55 EN_BUCK (in), 56 SS_TR (in)

## DRV8350RH
designator U1
100V Three Phase Gate Driver With 3 Current Shunt Amplifiers
footprint QFN-48 - P0.4MM (QFN48_0.4mm_Pitch)
pins: 0 EPAD, 1 GND, 2 VGLS, 3 CPL, 4 CPH, 5 VM, 6 VDRAIN, 7 VCP, 8 GHA, 9 SHA, 10 GLA, 11 SLA, 14 SLB, 15 GLB, 16 SHB, 17 GHB, 18 GHC, 19 SHC, 20 GLC, 21 SLC, 27 AGND, 28 nFAULT, 29 MODE, 30 IDRIVE, 31 VDS, 33 ENABLE, 34 INHA, 35 INLA, 36 INHB, 37 INLB, 38 INHC, 39 INLC, 40 DVDD, 41 DGND, 42 SW, 43 VIN, 44 VCC, 45 BST, 46 RCL, 47 RT/SD, 48 FB

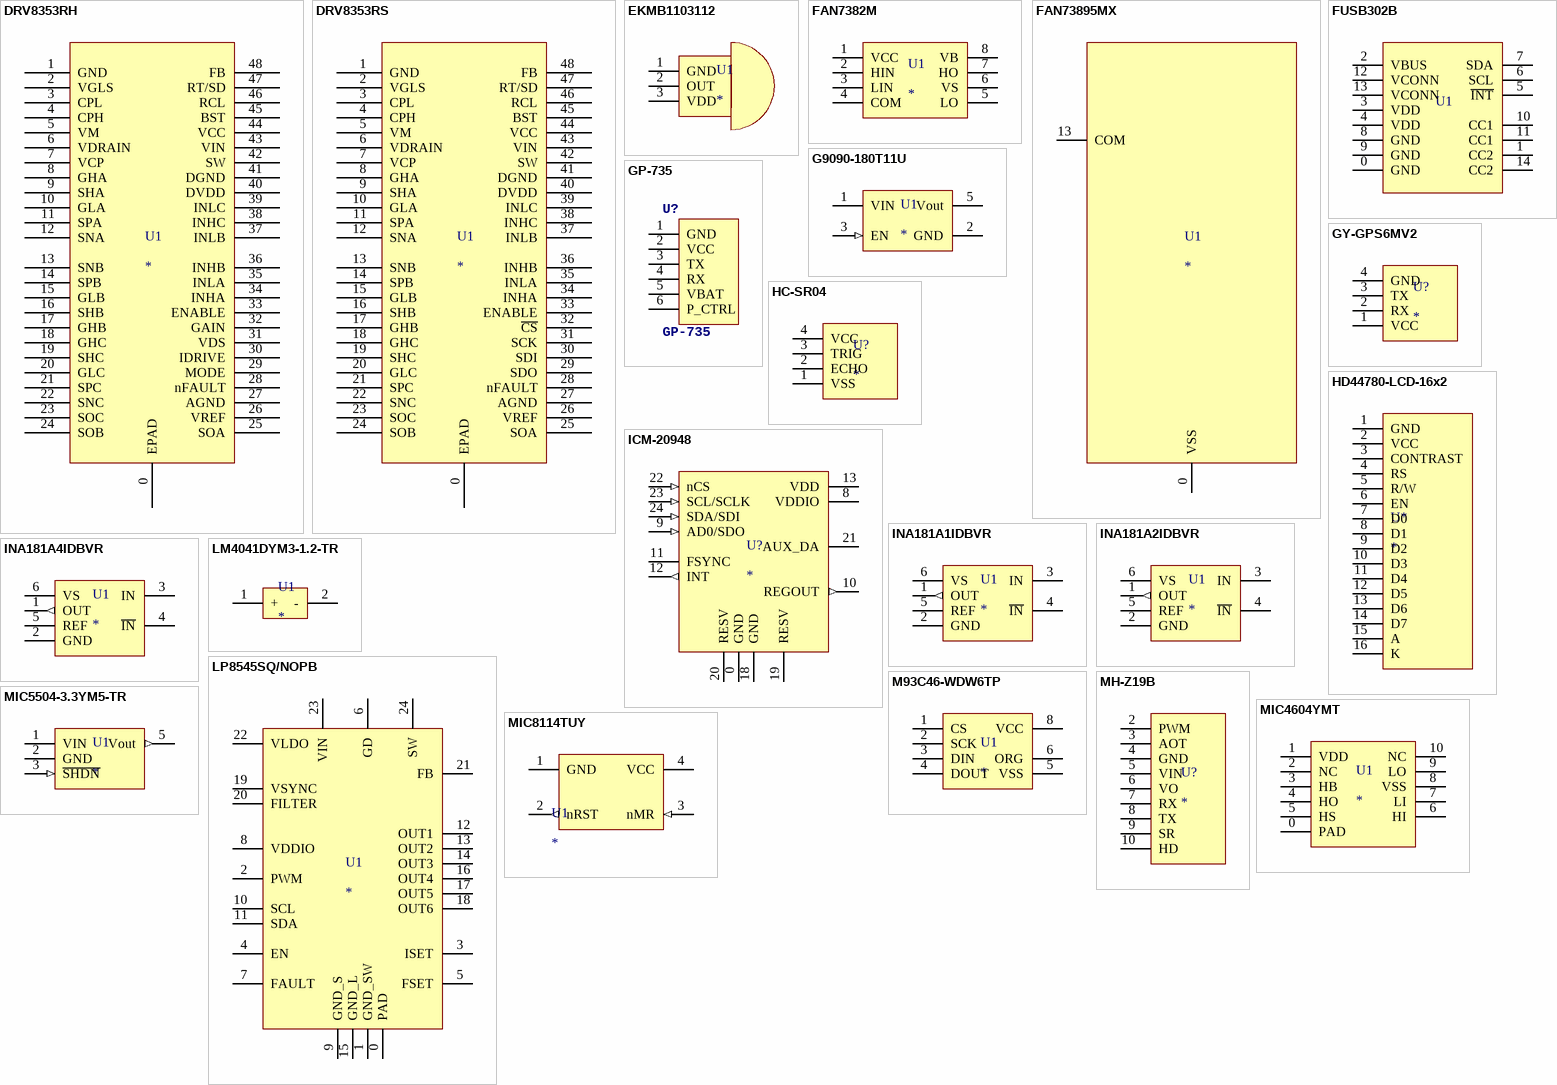
[diagram p4: symbols DRV8353RH to MIC8114TUY]

## DRV8353RH
designator U1
100V Three Phase Gate Driver With 3 Current Shunt Amplifiers and Buck Regulator
footprint QFN-48 - P0.5MM (QFN; 48 Leads; Body 7 x 7 mm; Pitch 0.5 mm)
pins: 0 EPAD, 1 GND, 2 VGLS, 3 CPL, 4 CPH, 5 VM, 6 VDRAIN, 7 VCP, 8 GHA, 9 SHA, 10 GLA, 11 SPA, 12 SNA, 13 SNB, 14 SPB, 15 GLB, 16 SHB, 17 GHB, 18 GHC, 19 SHC, 20 GLC, 21 SPC, 22 SNC, 23 SOC, 24 SOB, 25 SOA, 26 VREF, 27 AGND, 28 nFAULT, 29 MODE, 30 IDRIVE, 31 VDS, 32 GAIN, 33 ENABLE, 34 INHA, 35 INLA, 36 INHB, 37 INLB, 38 INHC, 39 INLC, 40 DVDD, 41 DGND, 42 SW, 43 VIN, 44 VCC, 45 BST, 46 RCL, 47 RT/SD, 48 FB

## DRV8353RS
designator U1
100V Three Phase Gate Driver With 3 Current Shunt Amplifiers and Buck Regulator (SPI)
footprint QFN-48 - P0.5MM (QFN; 48 Leads; Body 7 x 7 mm; Pitch 0.5 mm)
pins: 0 EPAD, 1 GND, 2 VGLS, 3 CPL, 4 CPH, 5 VM, 6 VDRAIN, 7 VCP, 8 GHA, 9 SHA, 10 GLA, 11 SPA, 12 SNA, 13 SNB, 14 SPB, 15 GLB, 16 SHB, 17 GHB, 18 GHC, 19 SHC, 20 GLC, 21 SPC, 22 SNC, 23 SOC, 24 SOB, 25 SOA, 26 VREF, 27 AGND, 28 nFAULT, 29 SDO, 30 SDI, 31 SCK, 32 ~{CS}, 33 ENABLE, 34 INHA, 35 INLA, 36 INHB, 37 INLB, 38 INHC, 39 INLC, 40 DVDD, 41 DGND, 42 SW, 43 VIN, 44 VCC, 45 BST, 46 RCL, 47 RT/SD, 48 FB

## EKMB1103112
designator U1
Long Range PIR Sensor
footprint EKMB-RightAngle (Long Range PIR Sensor)
pins: 1 GND (power), 2 OUT, 3 VDD

## FAN7382M
designator U1
High and Low Side Gate Driver
footprint SOIC-8
pins: 1 VCC, 2 HIN, 3 LIN, 4 COM, 5 LO, 6 VS, 7 HO, 8 VB

## FAN73895MX
designator U1
3 PHASE CURRENT SHUNT AMPLIFIER
footprint SOIC-20 - W7.5mm (Small Outline; 20 Leads; Body Width 7.5 mm; Pitch 1.27 mm)
pins: 0 VSS, 13 COM

## FUSB302B
designator U1  (value not drawn)
USB PD PHY
footprint QFN-14 - P0.5MM (Quad Flat No Lead, Plastic; 14 Terminals; Body 2.5 x 2.5 mm; Pitch 0.5 mm)
pins: 0 GND, 1 CC2, 2 VBUS, 3 VDD, 4 VDD, 5 ~{INT}, 6 SCL, 7 SDA, 8 GND, 9 GND, 10 CC1, 11 CC1, 12 VCONN, 13 VCONN, 14 CC2

## G9090-180T11U
designator U1
300mA Low-Dropout Linear Regulators
footprint SOT-353-5/SC-88A (5 Leads; Body 2.1 x 2.4 mm, inc. leads (LxW max))
pins: 1 VIN (power), 2 GND (power), 3 EN (in), 5 Vout (power)

## GP-735
designator U?
56 Ch GPS; PROD_ID: CONN-08249
footprint GP735
footprint BM06B-SRSS-TB (JST SH 1MM CONN HEADER 6POS TOP)
pins: 1 GND, 2 VCC, 3 TX, 4 RX, 5 VBAT, 6 P_CTRL

## GY-GPS6MV2
designator U?
GY-GPS6MV2
footprint gy-gps6mv2 (GPS)
pins: 1 VCC, 2 RX, 3 TX, 4 GND (power)

## HC-SR04
designator U?
Ultrasound Sensor
footprint hc-sr04 (Ultrasound Sensor)
footprint HC-SR04(Horizontal) (Ultrasound Sensor)
pins: 1 VSS, 2 ECHO, 3 TRIG, 4 VCC (power)

## HD44780-LCD-16x2
designator U*
footprint HD44780-LCD-16x2 (Hitachi LCD)
pins: 1 GND, 2 VCC, 3 CONTRAST, 4 RS, 5 R/W, 6 EN, 7 D0, 8 D1, 9 D2, 10 D3, 11 D4, 12 D5, 13 D6, 14 D7, 15 A, 16 K

## ICM-20948
designator U?
Low Power 9-Axis MEMS Motion Tracking Device
footprint QFN-24 - P0.5MM (Quad Flat No Lead, Plastic; 24 Terminals; Body 4 x 4 mm; Pitch 0.5 mm)
pins: 0 GND, 8 VDDIO (power), 9 AD0/SDO (in), 10 REGOUT (out), 11 FSYNC, 12 INT (out), 13 VDD (power), 18 GND, 19 RESV, 20 RESV, 21 AUX_DA, 22 nCS (in), 23 SCL/SCLK (in), 24 SDA/SDI (in)

## INA181A1IDBVR
designator U1
Current Sense Amplifiers 20V/V
footprint SOT-23-6 (SOT-23-6 Leads; Body 3.1 x 3 mm, inc. leads (LxW max))
pins: 1 OUT (out), 2 GND, 3 IN, 4 ~{IN}, 5 REF, 6 VS (power)

## INA181A2IDBVR
designator U1
50V/V GAIN, Current Sense Amplifiers, Bidirectional, Low- or High-Side Voltage Output Current Sense Amplifier
footprint SOT-23-6 (SOT-23-6 Leads; Body 3.1 x 3 mm, inc. leads (LxW max))
pins: 1 OUT (out), 2 GND, 3 IN, 4 ~{IN}, 5 REF, 6 VS (power)

## INA181A4IDBVR
designator U1
200V/V GAIN, Current Sense Amplifiers, Bidirectional, Low- or High-Side Voltage Output Current Sense Amplifier
footprint SOT-23-6 (SOT-23-6 Leads; Body 3.1 x 3 mm, inc. leads (LxW max))
pins: 1 OUT (out), 2 GND, 3 IN, 4 ~{IN}, 5 REF, 6 VS (power)

## LM4041DYM3-1.2-TR
designator U1
Voltage References Fixed 1.225V
footprint SOT-23-3 (SOT-23-3 Leads; Body 3.1 x 3 mm, inc. leads (LxW max))
pins: 1 +, 2 -

## LP8545SQ/NOPB
designator U1
LED Lighting Drivers Hi-Eff LED Backlight Driver
footprint QFN-24 - P0.5mm (Quad Flat No Lead, Plastic; 24 Terminals; Body 4 x 4 mm; Pitch 0.5 mm)
pins: 0 PAD, 1 GND_SW, 2 PWM, 3 ISET, 4 EN, 5 FSET, 6 GD, 7 FAULT, 8 VDDIO, 9 GND_S, 10 SCL, 11 SDA, 12 OUT1, 13 OUT2, 14 OUT3, 15 GND_L, 16 OUT4, 17 OUT5, 18 OUT6, 19 VSYNC, 20 FILTER, 21 FB, 22 VLDO, 23 VIN, 24 SW

## M93C46-WDW6TP
designator U1
M93C46-WDW6TP
footprint TSSOP-8 - P0.5MM - W4.4MM (Shrink Small Outline; 8 Leads; Body Width 4.4 mm; Pitch 0.5 mm)
pins: 1 CS, 2 SCK, 3 DIN, 4 DOUT, 5 VSS, 6 ORG, 8 VCC

## MH-Z19B
designator U?
GY-GPS6MV2
footprint MH-Z19B (NDIR CO2)
pins: 2 PWM, 3 AOT, 4 GND (power), 5 VIN, 6 VO, 7 RX, 8 TX, 9 SR, 10 HD

## MIC4604YMT
designator U1
85V Half Bridge Driver
footprint TDFN-10 (Pitch 0.50mm, Thermal Pad, IPC Medium Density)
pins: 0 PAD, 1 VDD, 2 NC, 3 HB, 4 HO, 5 HS, 6 HI, 7 LI, 8 VSS, 9 LO, 10 NC

## MIC5504-3.3YM5-TR
designator U1
LDO Voltage Regulators 3.3V
footprint SOT-23-5 (SOT-23-5 Leads; Body 3.1 x 3 mm, inc. leads (LxW max))
pins: 1 VIN (power), 2 GND, 3 ~{SHDN} (in), 5 Vout (out)

## MIC8114TUY
designator U1
IC SUPERVISOR RESET 3.08V SOT143
footprint SOT-143-4 (SOT-143; 4 Leads; Body 3 x 2.6 mm, inc. leads (LxW max))
pins: 1 GND (power), 2 nRST (out), 3 nMR (in), 4 VCC (power)

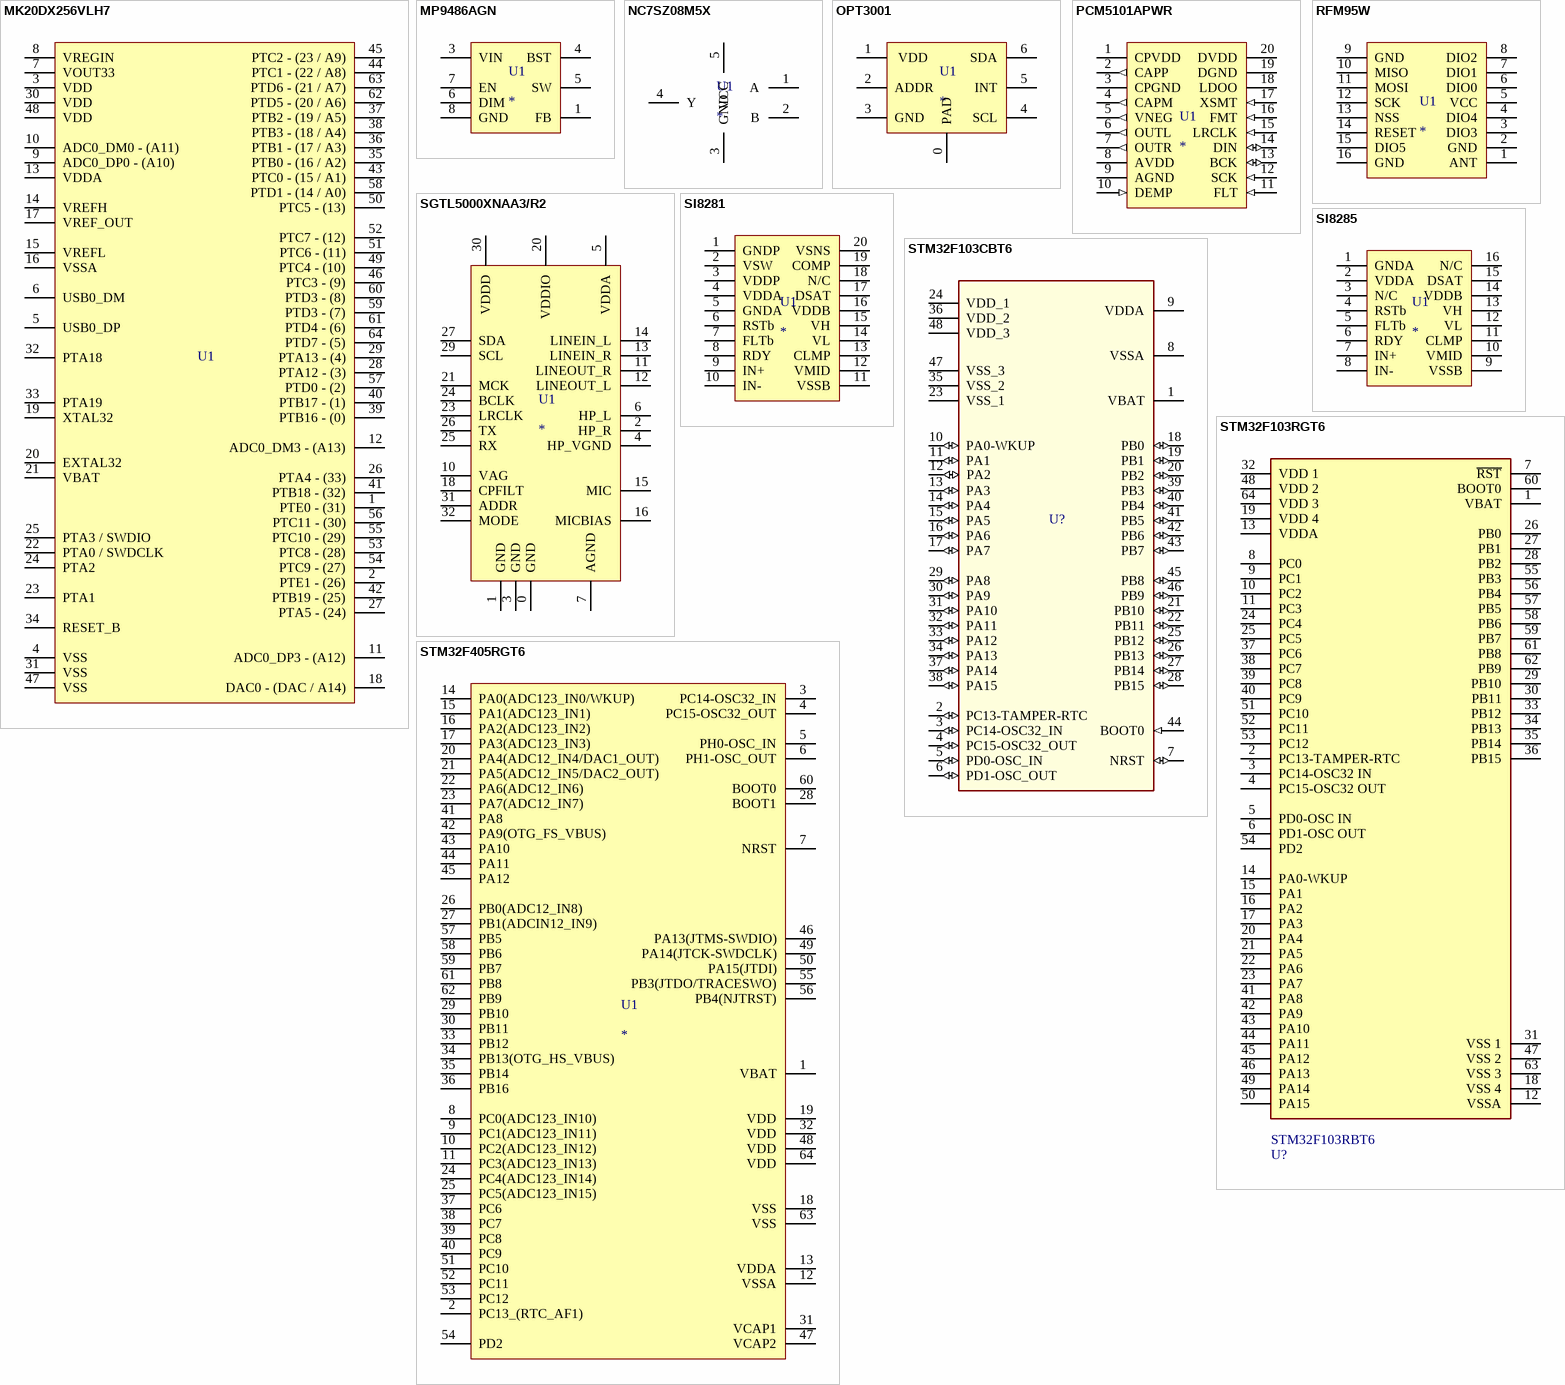
[diagram p5: symbols MK20DX256VLH7 to STM32F405RGT6]

## MK20DX256VLH7
designator U1  (value not drawn)
Kinetis K20
footprint QFP-64 - P0.5MM (64-Pin Plastic Quad Flat Pack (TQFP))
pins: 1 PTE0 - (31), 2 PTE1 - (26), 3 VDD, 4 VSS, 5 USB0_DP, 6 USB0_DM, 7 VOUT33, 8 VREGIN, 9 ADC0_DP0 - (A10), 10 ADC0_DM0 - (A11), 11 ADC0_DP3 - (A12), 12 ADC0_DM3 - (A13), 13 VDDA, 14 VREFH, 15 VREFL, 16 VSSA, 17 VREF_OUT, 18 DAC0 - (DAC / A14), 19 XTAL32, 20 EXTAL32, 21 VBAT, 22 PTA0 / SWDCLK, 23 PTA1, 24 PTA2, 25 PTA3 / SWDIO, 26 PTA4 - (33), 27 PTA5 - (24), 28 PTA12 - (3), 29 PTA13 - (4), 30 VDD, 31 VSS, 32 PTA18, 33 PTA19, 34 RESET_B, 35 PTB0 - (16 / A2), 36 PTB1 - (17 / A3), 37 PTB2 - (19 / A5), 38 PTB3 - (18 / A4), 39 PTB16 - (0), 40 PTB17 - (1), 41 PTB18 - (32), 42 PTB19 - (25), 43 PTC0 - (15 / A1), 44 PTC1 - (22 / A8), 45 PTC2 - (23 / A9), 46 PTC3 - (9), 47 VSS, 48 VDD, 49 PTC4 - (10), 50 PTC5 - (13), 51 PTC6 - (11), 52 PTC7 - (12), 53 PTC8 - (28), 54 PTC9 - (27), 55 PTC10 - (29), 56 PTC11 - (30), 57 PTD0 - (2), 58 PTD1 - (14 / A0), 59 PTD3 - (7), 60 PTD3 - (8), 61 PTD4 - (6), 62 PTD5 - (20 / A6), 63 PTD6 - (21 / A7), 64 PTD7 - (5)

## MP9486AGN
designator U1
Switching Voltage Regulators 100V Input
footprint SOIC-8
pins: 1 FB, 3 VIN (power), 4 BST, 5 SW, 6 DIM, 7 EN, 8 GND

## NC7SZ08M5X
designator U1
Logic Gates UHS 2-Input AND Gate
footprint SOT-23-5/SC-74A (SOT-23/SC-74A; 5 Leads; Body 3.1 x 3 mm, inc. leads (LxW max))
pins: 1 A, 2 B, 3 GND, 4 Y, 5 VCC

## OPT3001
designator U1
Ambient Light Sensor (ALS)
footprint USON-6 - P0.65MM (USON-6)
pins: 0 PAD, 1  VDD, 2 ADDR, 3 GND, 4 SCL, 5 INT, 6 SDA

## PCM5101APWR
designator U1
Audio D/A Converter ICs 2VRMS DirectPath 106 dB Audio Stereo DAC
footprint TSSOP-20 - W4.4MM (Shrink Small Outline; 20 Leads; Body Width 4.4 mm; Pitch 0.65 mm)
pins: 1 CPVDD, 2 CAPP (out), 3 CPGND, 4 CAPM (out), 5 VNEG (out), 6 OUTL (out), 7 OUTR (out), 8 AVDD (power), 9 AGND, 10 DEMP (in), 11 FLT (in), 12 SCK (in), 13 BCK (io), 14 DIN (io), 15 LRCLK (in), 16 FMT (in), 17 XSMT (in), 18 LDOO, 19 DGND, 20 DVDD (power)

## RFM95W
designator U1
868/915Mhz RF Transceiver Module
footprint RFM95W (HopeRF Module)
pins: 1 ANT, 2 GND, 3 DIO3, 4 DIO4, 5 VCC, 6 DIO0, 7 DIO1, 8 DIO2, 9 GND, 10 MISO, 11 MOSI, 12 SCK, 13 NSS, 14 RESET, 15 DIO5, 16 GND

## SGTL5000XNAA3/R2
designator U1
Low Power Stereo Codec with  Headphone Amp
footprint QFN-32 - P0.5MM (Quad Flat No Lead; 32 Terminals; Body 5 x 5 mm; Pitch 0.5 mm)
pins: 0 GND, 1 GND, 2 HP_R, 3 GND, 4 HP_VGND, 5 VDDA, 6 HP_L, 7 AGND, 10 VAG, 11 LINEOUT_R, 12 LINEOUT_L, 13 LINEIN_R, 14 LINEIN_L, 15 MIC, 16 MICBIAS, 18 CPFILT, 20 VDDIO, 21 MCK, 23 LRCLK, 24 BCLK, 25 RX, 26 TX, 27 SDA (power), 29 SCL, 30 VDDD, 31 ADDR, 32 MODE

## SI8281
designator U1
85V Half Bridge Driver
footprint SOIC-20-W7.5 (Small Outline; 20 Leads; Body Width 7.5 mm; Pitch 1.27 mm)
pins: 1 GNDP, 2 VSW, 3 VDDP, 4 VDDA, 5 GNDA, 6 RSTb, 7 FLTb, 8 RDY, 9 IN+, 10 IN-, 11 VSSB, 12 VMID, 13 CLMP, 14 VL, 15 VH, 16 VDDB, 17 DSAT, 18 N/C, 19 COMP, 20 VSNS

## SI8285
designator U1
85V Half Bridge Driver
footprint SOIC-16-W7.5
pins: 1 GNDA, 2 VDDA, 3 N/C, 4 RSTb, 5 FLTb, 6 RDY, 7 IN+, 8 IN-, 9 VSSB, 10 VMID, 11 CLMP, 12 VL, 13 VH, 14 VDDB, 15 DSAT, 16 N/C

## STM32F103CBT6
designator U?
ARM Cortex-M3 32-bit MCU, 128 KB Flash, 20 KB Internal RAM, 37 I/Os, 48-pin LQFP, -40 to 85 degC, Tray; PartNumber: STM32F103CBT6; A/D Converter: 2x12-bit (10 Channel); FLASH Size (Prog) (kB): 128; I/Os (High Current): 37; Internal RAM Size (kB): 20; Operating Frequency(F) (Processor speed) (MHz): 72; Supply Voltage(Vcc) min (V): 2; DatasheetVersion: Rev. 16; PackageVersion: Rev. 6, 06/2013; PackageReference: LQFP48; PackageDescription: 48-Pin Low Profile Quad Flat Package, 7 x 7 mm Body, 0.5 mm Pitch; Supplier 1: Digi-Key; Supplier Part Number 1: 497-6288-ND; Supplier 2: Farnell; Supplier Part Number 2: 1606327; Supplier 3: Newark; Supplier Part Number 3: 11N8296; Supplier 4: Newark; Supplier Part Number 4: 57P1214; Supplier 5: Mouser; Supplier Part Number 5: 511-STM32F103CBT6; Core: ARM Cortex-M3; Packing: Tray; Mounting Technology: Surface Mount; ComponentLink1Description: Manufacturer URL; ComponentLink1URL: http://www.st.com/web/en/home.html; ComponentLink2Description: Datasheet; ComponentLink2URL: http://www.st.com/st-web-ui/static/active/en/resource/technical/document/datasheet/CD00161566.pdf; ComponentLink3Description: Package Specification; ComponentLink3URL: http://www.st.com/st-web-ui/static/active/en/resource/technical/document/datasheet/DM00058181.pdf
footprint QFP-48 (QFP; 48 Leads; Body 7 x 7 mm; Pitch 0.5 mm)
pins: 1 VBAT (power), 2 PC13-TAMPER-RTC (io) "PC13-TAMPER-RTC/PC13/TAMPER-RTC", 3 PC14-OSC32_IN (io) "PC14-OSC32_IN/PC14/OSC32_IN", 4 PC15-OSC32_OUT (io) "PC15-OSC32_OUT/PC15/OSC32_OUT", 5 PD0-OSC_IN (io) "PD0/OSC_IN", 6 PD1-OSC_OUT (io) "PD1/OSC_OUT", 7 NRST (io), 8 VSSA (power), 9 VDDA (power), 10 PA0-WKUP (io) "PA0-WKUP/PA0/WKUP/USART2_CTS/ADC12_IN0/TIM2_CH1_ETR", 11 PA1 (io) "PA1/USART2_RTS/ADC12_IN1/TIM2_CH2", 12 PA2 (io) "PA2/USART2_TX/ADC12_IN2/TIM2_CH3", 13 PA3 (io) "PA3/USART2_RX/ADC12_IN3/TIM2_CH4", 14 PA4 (io) "PA4/SPI1_NSS/USART2_CK/ADC12_IN4", 15 PA5 (io) "PA5/SPI1_SCK/ADC12_IN5", 16 PA6 (io) "PA6/SPI1_MISO/ADC12_IN6/TIM3_CH1/TIM1_BKIN", 17 PA7 (io) "PA7/SPI1_MOSI/ADC12_IN7/TIM3_CH2/TIM1_CH1N", 18 PB0 (io) "PB0/ADC12_IN8/TIM3_CH3/TIM1_CH2N", 19 PB1 (io) "PB1/ADC12_IN9/TIM3_CH4/TIM1_CH3N", 20 PB2 (io) "PB2/BOOT1", 21 PB10 (io) "PB10/I2C2_SCL/USART3_TX/TIM2_CH3", 22 PB11 (io) "PB11/I2C2_SDA/USART3_RX/TIM2_CH4", 23 VSS_1 (power), 24 VDD_1 (power), 25 PB12 (io) "PB12/SPI2_NSS/I2C2_SMBAl/USART3_CK/TIM1_BKIN", 26 PB13 (io) "PB13/SPI2_SCK/USART3_CTS/TIM1_CH1N", 27 PB14 (io) "PB14/SPI2_MISO/USART3_RTS/TIM1_CH2N", 28 PB15 (io) "PB15/SPI2_MOSI/TIM1_CH3N", 29 PA8 (io) "PA8/USART1_CK/TIM1_CH1/MCO", 30 PA9 (io) "PA9/USART1_TX/TIM1_CH2", 31 PA10 (io) "PA10/USART1_RX/TIM1_CH3", 32 PA11 (io) "PA11/USART1_CTS/CANRX/USBDM/TIM1_CH4", 33 PA12 (io) "PA12/USART1_RTS/CANTX/USBDP/TIM1_ETR", 34 PA13 (io) "PA13/JTMS/SWDIO", 35 VSS_2 (power), 36 VDD_2 (power), 37 PA14 (io) "PA14/JTCK/SWCLK", 38 PA15 (io) "PA15/JTDI/TIM2_CH1_ETR/SPI1_NSS", 39 PB3 (io) "PB3/JTDO/TIM2_CH2/TRACESWO/SPI1_SCK", 40 PB4 (io) "PB4/NJTRST/TIM3_CH1/SPI1_MISO", 41 PB5 (io) "PB5/I2C1_SMBAI/TIM3_CH2/SPI1_MOSI", 42 PB6 (io) "PB6/I2C1_SCL/TIM4_CH1/USART1_TX", 43 PB7 (io) "PB7/I2C1_SDA/TIM4_CH2/USART1_RX", 44 BOOT0 (in), 45 PB8 (io) "PB8/TIM4_CH3/I2C1_SCL/CANRX", 46 PB9 (io) "PB9/TIM4_CH4/I2C1_SDA/CANTX", 47 VSS_3 (power), 48 VDD_3 (power)

## STM32F103RGT6
designator U?  Part Number: STM32F103RBT6
IC MCU 32BIT 128KB FLASH 64LQFP; LCSC Part #: C8735; ComponentLink2Description: Datasheet; ComponentLink1URL: https://upverter.com/upn/revision/179c87d5c3d4f257/; ComponentLink1Description: Upverter; ComponentLink2URL: http://www.st.com/content/ccc/resource/technical/document/datasheet/33/d4/6f/1d/df/0b/4c/6d/CD00161566.pdf/files/CD00161566.pdf/jcr:content/translations/en.CD00161566.pdf; Digikey Description: IC MCU 32BIT 128KB FLASH 64LQFP; Digikey Part Number: 497-6066-ND
footprint QFP-64 (64-Pin Plastic Quad Flat Pack (TQFP))
pins: 1 VBAT (power), 2 PC13-TAMPER-RTC, 3 PC14-OSC32 IN, 4 PC15-OSC32 OUT, 5 PD0-OSC IN, 6 PD1-OSC OUT, 7 ~{RST}, 8 PC0, 9 PC1, 10 PC2, 11 PC3, 12 VSSA (power), 13 VDDA (power), 14 PA0-WKUP, 15 PA1, 16 PA2, 17 PA3, 18 VSS 4 (power), 19 VDD 4 (power), 20 PA4, 21 PA5, 22 PA6, 23 PA7, 24 PC4, 25 PC5, 26 PB0, 27 PB1, 28 PB2, 29 PB10, 30 PB11, 31 VSS 1 (power), 32 VDD 1 (power), 33 PB12, 34 PB13, 35 PB14, 36 PB15, 37 PC6, 38 PC7, 39 PC8, 40 PC9, 41 PA8, 42 PA9, 43 PA10, 44 PA11, 45 PA12, 46 PA13, 47 VSS 2 (power), 48 VDD 2 (power), 49 PA14, 50 PA15, 51 PC10, 52 PC11, 53 PC12, 54 PD2, 55 PB3, 56 PB4, 57 PB5, 58 PB6, 59 PB7, 60 BOOT0, 61 PB8, 62 PB9, 63 VSS 3 (power), 64 VDD 3 (power)

## STM32F405RGT6
designator U1
Cortex M4 MCU
footprint QFP-64 (64-Pin Plastic Quad Flat Pack (TQFP))
pins: 1 VBAT, 2 PC13_(RTC_AF1), 3 PC14-OSC32_IN, 4 PC15-OSC32_OUT, 5 PH0-OSC_IN, 6 PH1-OSC_OUT, 7 NRST, 8 PC0(ADC123_IN10), 9 PC1(ADC123_IN11), 10 PC2(ADC123_IN12), 11 PC3(ADC123_IN13), 12 VSSA, 13 VDDA, 14 PA0(ADC123_IN0/WKUP), 15 PA1(ADC123_IN1), 16 PA2(ADC123_IN2), 17 PA3(ADC123_IN3), 18 VSS, 19 VDD, 20 PA4(ADC12_IN4/DAC1_OUT), 21 PA5(ADC12_IN5/DAC2_OUT), 22 PA6(ADC12_IN6), 23 PA7(ADC12_IN7), 24 PC4(ADC123_IN14), 25 PC5(ADC123_IN15), 26 PB0(ADC12_IN8), 27 PB1(ADCIN12_IN9), 28 BOOT1, 29 PB10, 30 PB11, 31 VCAP1, 32 VDD, 33 PB12, 34 PB13(OTG_HS_VBUS), 35 PB14, 36 PB16, 37 PC6, 38 PC7, 39 PC8, 40 PC9, 41 PA8, 42 PA9(OTG_FS_VBUS), 43 PA10, 44 PA11, 45 PA12, 46 PA13(JTMS-SWDIO), 47 VCAP2, 48 VDD, 49 PA14(JTCK-SWDCLK), 50 PA15(JTDI), 51 PC10, 52 PC11, 53 PC12, 54 PD2, 55 PB3(JTDO/TRACESWO), 56 PB4(NJTRST), 57 PB5, 58 PB6, 59 PB7, 60 BOOT0, 61 PB8, 62 PB9, 63 VSS, 64 VDD

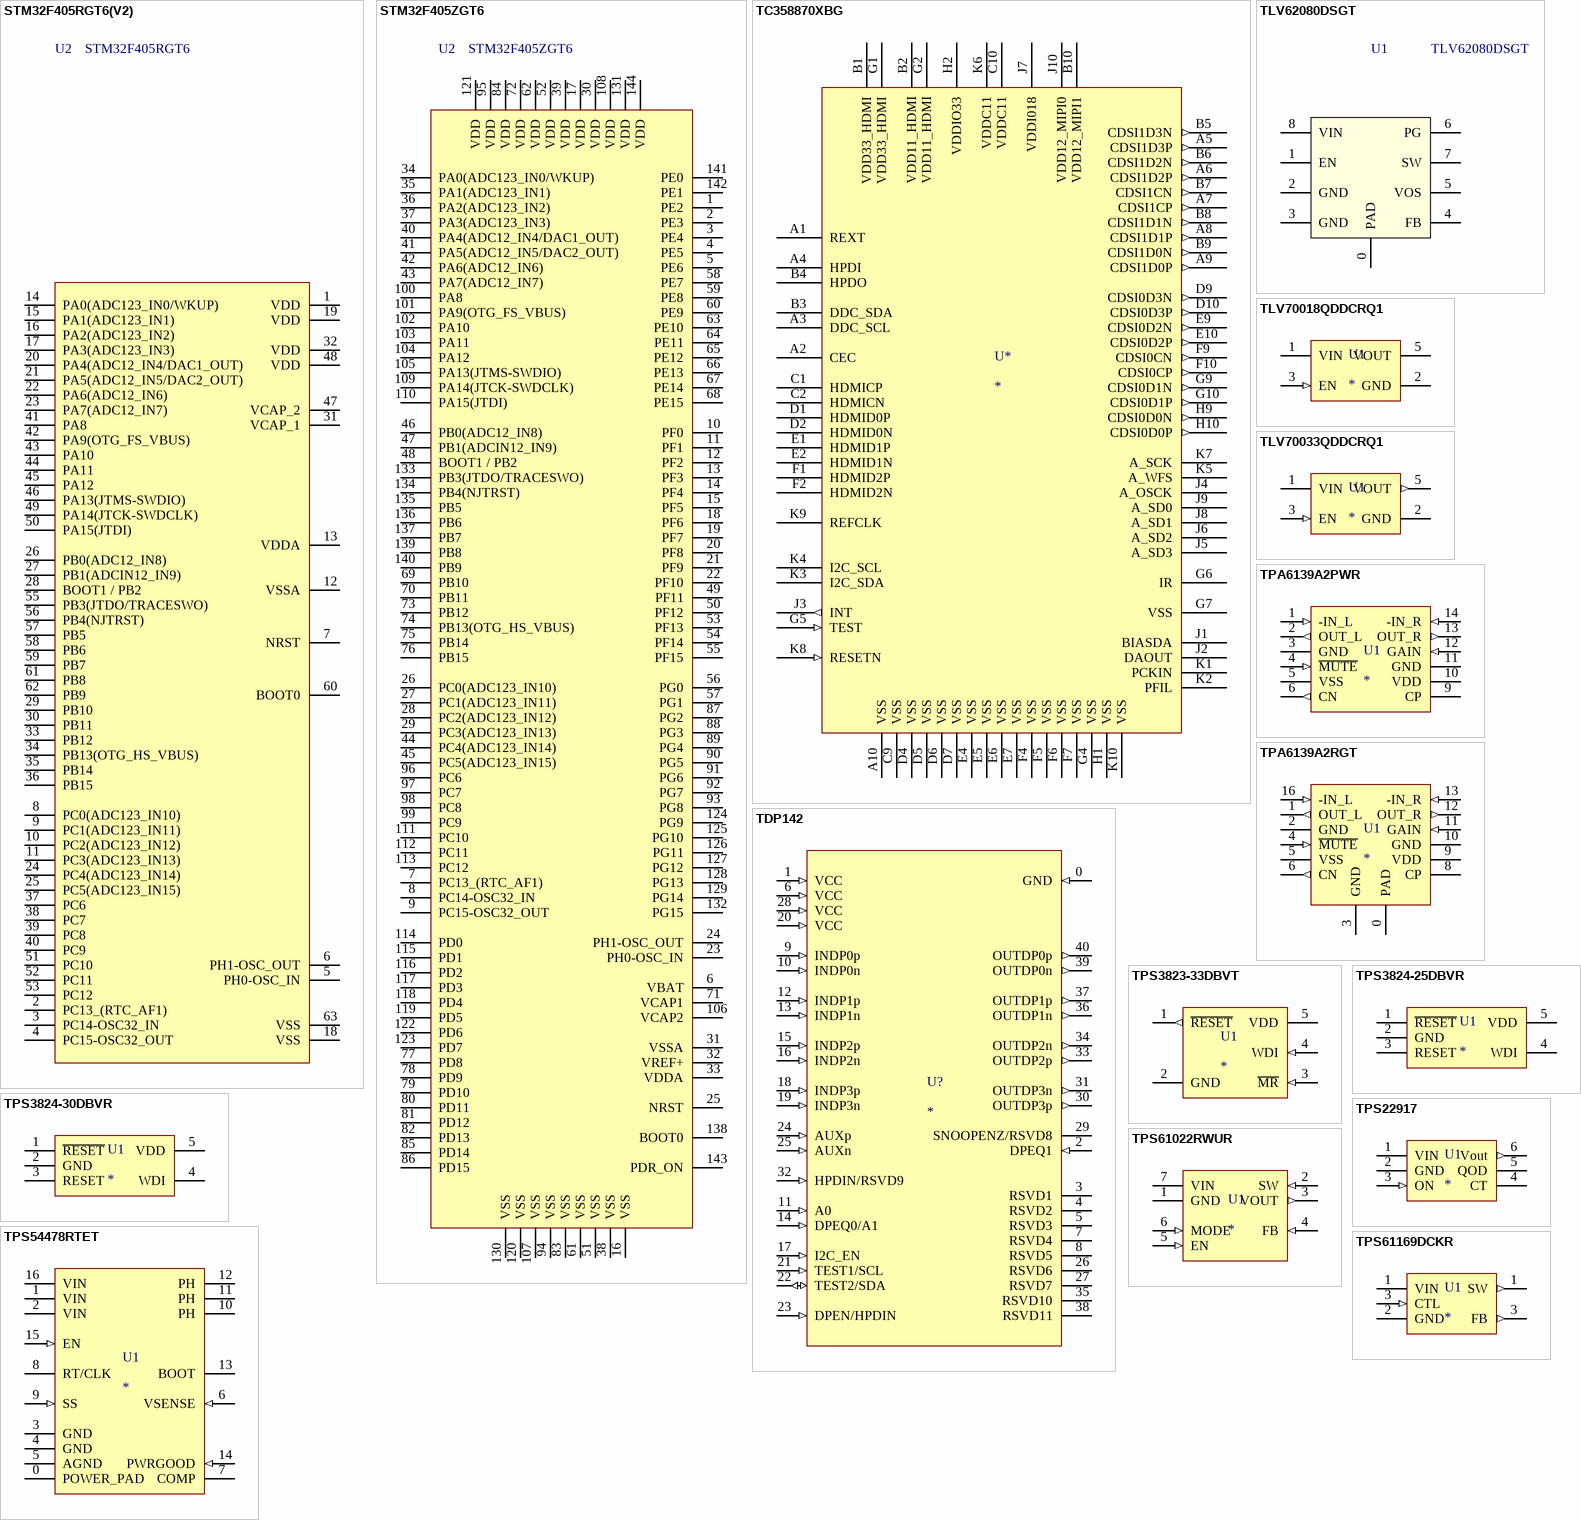
[diagram p6: symbols STM32F405RGT6(V2) to TPS61169DCKR]

## STM32F405RGT6(V2)
designator U2, comment STM32F405RGT6
Cortex M4 MCU
footprint QFP-64 (64-Pin Plastic Quad Flat Pack (TQFP))
pins: 1 VDD, 2 PC13_(RTC_AF1), 3 PC14-OSC32_IN, 4 PC15-OSC32_OUT, 5 PH0-OSC_IN, 6 PH1-OSC_OUT, 7 NRST, 8 PC0(ADC123_IN10), 9 PC1(ADC123_IN11), 10 PC2(ADC123_IN12), 11 PC3(ADC123_IN13), 12 VSSA, 13 VDDA, 14 PA0(ADC123_IN0/WKUP), 15 PA1(ADC123_IN1), 16 PA2(ADC123_IN2), 17 PA3(ADC123_IN3), 18 VSS, 19 VDD, 20 PA4(ADC12_IN4/DAC1_OUT), 21 PA5(ADC12_IN5/DAC2_OUT), 22 PA6(ADC12_IN6), 23 PA7(ADC12_IN7), 24 PC4(ADC123_IN14), 25 PC5(ADC123_IN15), 26 PB0(ADC12_IN8), 27 PB1(ADCIN12_IN9), 28 BOOT1 / PB2, 29 PB10, 30 PB11, 31 VCAP_1, 32 VDD, 33 PB12, 34 PB13(OTG_HS_VBUS), 35 PB14, 36 PB15, 37 PC6, 38 PC7, 39 PC8, 40 PC9, 41 PA8, 42 PA9(OTG_FS_VBUS), 43 PA10, 44 PA11, 45 PA12, 46 PA13(JTMS-SWDIO), 47 VCAP_2, 48 VDD, 49 PA14(JTCK-SWDCLK), 50 PA15(JTDI), 51 PC10, 52 PC11, 53 PC12, 55 PB3(JTDO/TRACESWO), 56 PB4(NJTRST), 57 PB5, 58 PB6, 59 PB7, 60 BOOT0, 61 PB8, 62 PB9, 63 VSS

## STM32F405ZGT6
designator U2
Cortex M4 MCU
footprint QFP-144 (Thin QFP, 144-Leads, Body 20x20mm, Pitch 0.5mm, ST Recommended)
pins: 1 PE2, 2 PE3, 3 PE4, 4 PE5, 5 PE6, 6 VBAT, 7 PC13_(RTC_AF1), 8 PC14-OSC32_IN, 9 PC15-OSC32_OUT, 10 PF0, 11 PF1, 12 PF2, 13 PF3, 14 PF4, 15 PF5, 16 VSS, 17 VDD, 18 PF6, 19 PF7, 20 PF8, 21 PF9, 22 PF10, 23 PH0-OSC_IN, 24 PH1-OSC_OUT, 25 NRST, 26 PC0(ADC123_IN10), 27 PC1(ADC123_IN11), 28 PC2(ADC123_IN12), 29 PC3(ADC123_IN13), 30 VDD, 31 VSSA, 32 VREF+, 33 VDDA, 34 PA0(ADC123_IN0/WKUP), 35 PA1(ADC123_IN1), 36 PA2(ADC123_IN2), 37 PA3(ADC123_IN3), 38 VSS, 39 VDD, 40 PA4(ADC12_IN4/DAC1_OUT), 41 PA5(ADC12_IN5/DAC2_OUT), 42 PA6(ADC12_IN6), 43 PA7(ADC12_IN7), 44 PC4(ADC123_IN14), 45 PC5(ADC123_IN15), 46 PB0(ADC12_IN8), 47 PB1(ADCIN12_IN9), 48 BOOT1 / PB2, 49 PF11, 50 PF12, 51 VSS, 52 VDD, 53 PF13, 54 PF14, 55 PF15, 56 PG0, 57 PG1, 58 PE7, 59 PE8, 60 PE9, 61 VSS, 62 VDD, 63 PE10, 64 PE11, 65 PE12, 66 PE13, 67 PE14, 68 PE15, 69 PB10, 70 PB11, 71 VCAP1, 72 VDD, 73 PB12, 74 PB13(OTG_HS_VBUS), 75 PB14, 76 PB15, 77 PD8, 78 PD9, 79 PD10, 80 PD11, 81 PD12, 82 PD13, 83 VSS, 84 VDD, 85 PD14, 86 PD15, 87 PG2, 88 PG3, 89 PG4, 90 PG5, 91 PG6, 92 PG7, 93 PG8, 94 VSS, 95 VDD, 96 PC6, 97 PC7, 98 PC8, 99 PC9, 100 PA8, 101 PA9(OTG_FS_VBUS), 102 PA10, 103 PA11, 104 PA12, 105 PA13(JTMS-SWDIO), 106 VCAP2, 107 VSS, 108 VDD, 109 PA14(JTCK-SWDCLK), 110 PA15(JTDI), 111 PC10, 112 PC11, 113 PC12, 114 PD0, 115 PD1, 116 PD2, 117 PD3, 118 PD4, 119 PD5, 120 VSS, 121 VDD, 122 PD6, 123 PD7, 124 PG9, 125 PG10, 126 PG11, 127 PG12, 128 PG13, 129 PG14, 130 VSS, 131 VDD, 132 PG15, 133 PB3(JTDO/TRACESWO), 134 PB4(NJTRST), 135 PB5, 136 PB6, 137 PB7, 138 BOOT0, 139 PB8, 140 PB9, 141 PE0, 142 PE1, 143 PDR_ON, 144 VDD

## TC358870XBG
designator U*
footprint BGA100 - 80 - P0.65MM (Ball Grid Array 10x10, 80 Pad, 0.4mm Pitch)
pins: A1 REXT, A2 CEC, A3 DDC_SCL, A4 HPDI, A5 CDSI1D3P (out), A6 CDSI1D2P (out), A7 CDSI1CP (out), A8 CDSI1D1P (out), A9 CDSI1D0P (out), A10 VSS (power), B1 VDD33_HDMI (power), B2 VDD11_HDMI (power), B3 DDC_SDA, B4 HPDO, B5 CDSI1D3N (out), B6 CDSI1D2N (out), B7 CDSI1CN (out), B8 CDSI1D1N (out), B9 CDSI1D0N (out), B10 VDD12_MIPI1 (power), C1 HDMICP, C2 HDMICN, C9 VSS (power), C10 VDDC11 (power), D1 HDMID0P, D2 HDMID0N, D4 VSS (power), D5 VSS (power), D6 VSS (power), D7 VSS (power), D9 CDSI0D3N (out), D10 CDSI0D3P (out), E1 HDMID1P, E2 HDMID1N, E4 VSS (power), E5 VSS (power), E6 VSS (power), E7 VSS (power), E9 CDSI0D2N (out), E10 CDSI0D2P (out), F1 HDMID2P, F2 HDMID2N, F4 VSS (power), F5 VSS (power), F6 VSS (power), F7 VSS (power), F9 CDSI0CN (out), F10 CDSI0CP (out), G1 VDD33_HDMI (power), G2 VDD11_HDMI (power), G4 VSS (power), G5 TEST (in), G6 IR, G7 VSS (power), G9 CDSI0D1N (out), G10 CDSI0D1P (out), H1 VSS (power), H2 VDDIO33 (power), H9 CDSI0D0N (out), H10 CDSI0D0P (out), J1 BIASDA, J2 DAOUT, J3 INT (out), J4 A_OSCK, J5 A_SD3, J6 A_SD2, J7 VDDI018 (power), J8 A_SD1, J9 A_SD0, J10 VDD12_MIPI0 (power), K1 PCKIN, K2 PFIL, K3 I2C_SDA, K4 I2C_SCL, K5 A_WFS, K6 VDDC11 (power), K7 A_SCK, K8 RESETN (in), K9 REFCLK, K10 VSS (power)

## TDP142
designator U?
DisplayPort™ 8.1 Gbps Linear Redriver
footprint WQFN-40 (RNQ) (QFN; 40 Leads; Body 4 x 6 mm; Pitch 0.4 mm)
pins: 0 GND (in), 1 VCC (in), 2 DPEQ1 (in), 3 RSVD1, 4 RSVD2, 5 RSVD3, 6 VCC (in), 7 RSVD4, 8 RSVD5, 9 INDP0p (in), 10 INDP0n (in), 11 A0 (in), 12 INDP1p (in), 13 INDP1n (in), 14 DPEQ0/A1 (in), 15 INDP2p (in), 16 INDP2n (in), 17 I2C_EN (in), 18 INDP3p (in), 19 INDP3n (in), 20 VCC (in), 21 TEST1/SCL (in), 22 TEST2/SDA (io), 23 DPEN/HPDIN (in), 24 AUXp (in), 25 AUXn (in), 26 RSVD6, 27 RSVD7, 28 VCC (in), 29 SNOOPENZ/RSVD8, 30 OUTDP3p (out), 31 OUTDP3n (out), 32 HPDIN/RSVD9 (in), 33 OUTDP2p (out), 34 OUTDP2n (out), 35 RSVD10, 36 OUTDP1n (out), 37 OUTDP1p (out), 38 RSVD11, 39 OUTDP0n (out), 40 OUTDP0p (out)

## TLV62080DSGT
designator U1
IC REG BUCK ADJ 1.2A SYNC 8WSON; Manufacturer: TI; P/N: IC_0195; Manufacturer P/N: TLV62080; Package: WSON8; Operating Temp Range: -40C - 85C; Supplier: Digikey; Supplier P/N: 296-39270-1-ND; Supplier Price: 1.38; Datasheet: http://www.ti.com/lit/gpn/tlv62080; Date: 7/13/2017; Author: RY
footprint WSON-8 - P0.5MM (SON, 8-Leads, Body 2.00x2.00mm, Pitch 0.50mm, Thermal Pad 1.55x0.85mm, IPC Medium Density)
pins: 0 PAD, 1 EN, 2 GND, 3 GND, 4 FB, 5 VOS, 6 PG, 7 SW, 8 VIN

## TLV70018QDDCRQ1
designator U1
LDO Voltage Regulators AC 200mA Low IQ LDO Reg
footprint SOT-23-5 (SOT-23-5 Leads; Body 3.1 x 3 mm, inc. leads (LxW max))
pins: 1 VIN (power), 2 GND, 3 EN (in), 5 VOUT

## TLV70033QDDCRQ1
designator U1
LDO Voltage Regulators AC 200mA Low IQ LDO Reg
footprint SOT-23-5/SC-74A (SOT-23/SC-74A; 5 Leads; Body 3.1 x 3 mm, inc. leads (LxW max))
pins: 1 VIN (power), 2 GND, 3 EN (in), 5 VOUT (out)

## TPA6139A2PWR
designator U1
Audio Amplifiers 25mW Headphone Amp
footprint TSSOP-14 - W4.4MM (Shrink Small Outline, TSSOP; 14 Leads; Body Width 4.4 mm; Pitch 0.65 mm)
pins: 1 -IN_L (in), 2 OUT_L (out), 3 GND, 4 ~{MUTE} (in), 5 VSS (power), 6 CN (out), 9 CP, 10 VDD, 11 GND, 12 GAIN (in), 13 OUT_R (out), 14 -IN_R (in)

## TPA6139A2RGT
designator U1
Audio Amplifiers 25mW Headphone Amp
footprint QFN-16 - P0.5MM (Quad Flat No Lead, Plastic; 16 Terminals; Body 3 x 3 mm; Pitch 0.5 mm)
pins: 0 PAD, 1 OUT_L (out), 2 GND, 3 GND, 4 ~{MUTE} (in), 5 VSS (power), 6 CN (out), 8 CP, 9 VDD, 10 GND, 11 GAIN (in), 12 OUT_R (out), 13 -IN_R (in), 16 -IN_L (in)

## TPS3823-33DBVT
designator U1
Supervisory Circuits w/ Watchdog
footprint SOT-23-5/SC-74A (SOT-23/SC-74A; 5 Leads; Body 3.1 x 3 mm, inc. leads (LxW max))
pins: 1 ~{RESET} (out), 2 GND (power), 3 ~{MR} (in), 4 WDI (in), 5 VDD (power)

## TPS3824-25DBVR
designator U1
Supervisory Circuits 2.25V Monitor
footprint SOT-353-5 (5 Leads; Body 2.1 x 2.4 mm, inc. leads (LxW max))
pins: 1 ~{RESET}, 2 GND, 3 RESET, 4 WDI, 5 VDD

## TPS3824-30DBVR
designator U1
Supervisory Circuits 2.63V Monitor
footprint SOT-353-5 (5 Leads; Body 2.1 x 2.4 mm, inc. leads (LxW max))
pins: 1 ~{RESET}, 2 GND, 3 RESET, 4 WDI, 5 VDD

## TPS22917
designator U1
1 V–5.5-V, 2-A, 80-mΩ Ultra-Low Leakage Load Switch
footprint SOT-23-6 (Footprint not found)
pins: 1 VIN (power), 2 GND, 3 ON (in), 4 CT, 5 QOD, 6 Vout (out)

## TPS54478RTET
designator U1
Switching Voltage Regulators 2.95V-6V in, 6A, Sync Step-Down Converter
footprint QFN-16 - P0.5MM (Quad Flat No Lead, Plastic; 16 Terminals; Body 3 x 3 mm; Pitch 0.5 mm)
pins: 0 POWER_PAD, 1 VIN (power), 2 VIN (power), 3 GND, 4 GND, 5 AGND, 6 VSENSE (in), 7 COMP, 8 RT/CLK, 9 SS (in), 10 PH, 11 PH, 12 PH, 13 BOOT, 14 PWRGOOD (in), 15 EN (in), 16 VIN (power)

## TPS61022RWUR
designator U1
8-A boost converter with 0.5-V ultra-low input voltage
footprint VQFN-HR (RWU)
pins: 1 GND (power), 2 SW (in), 3 VOUT (out), 4 FB (in), 5 EN (in), 6 MODE (in), 7 VIN

## TPS61169DCKR
designator U1
38V High Current Boost WLED Driver
footprint SOT-353-5/SC-88A (5 Leads; Body 2.1 x 2.4 mm, inc. leads (LxW max))
pins: 1 SW (out), 1 VIN, 2 GND (power), 3 FB (out), 3 CTL (in)

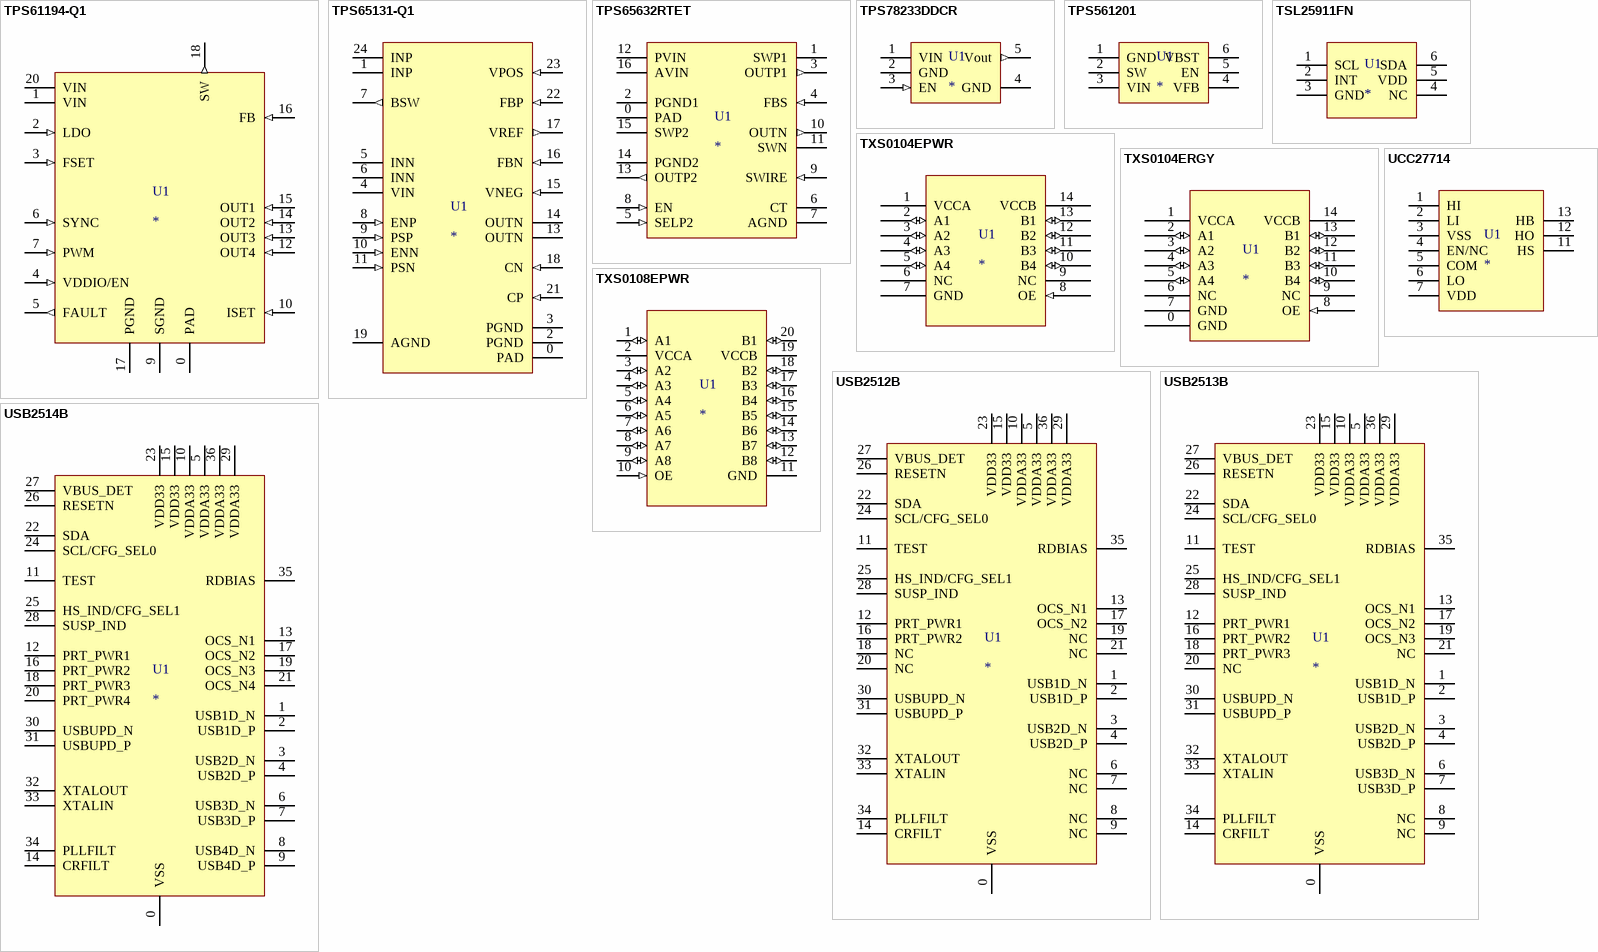
[diagram p7: symbols TPS61194-Q1 to USB2514B]

## TPS61194-Q1
designator U1
TPS61194-Q1 Low-EMI Automotive LED Driver With Four 100-mA Channels
footprint TSSOP-20-EP - W4.4MM (20 TSSOP WITH P.PAD)
pins: 0 PAD, 1 VIN (power), 2 LDO (in), 3 FSET (in), 4 VDDIO/EN (in), 5 FAULT (out), 6 SYNC (in), 7 PWM (in), 9 SGND, 10 ISET (in), 12 OUT4 (in), 13 OUT3 (in), 14 OUT2 (in), 15 OUT1 (in), 16 FB (in), 17 PGND, 18 SW (out), 20 VIN (power)

## TPS65131-Q1
designator U1
Switching Voltage Regulators Adj Switch Boost DC/DC
footprint QFN-24 - P0.5MM (Quad Flat No Lead, Plastic; 24 Terminals; Body 4 x 4 mm; Pitch 0.5 mm)
pins: 0 PAD, 1 INP (power), 2 PGND, 3 PGND, 4 VIN (power), 5 INN (power), 6 INN (power), 7 BSW (out), 8 ENP (in), 9 PSP (in), 10 ENN (in), 11 PSN (in), 13 OUTN, 14 OUTN, 15 VNEG (in), 16 FBN (in), 17 VREF (out), 18 CN (in), 19 AGND, 21 CP (in), 22 FBP (in), 23 VPOS (in), 24 INP (power)

## TPS65632RTET
designator U1
LED Display Drivers Triple-Output Display Power Supply
footprint QFN-16 - P0.5MM (Quad Flat No Lead, Plastic; 16 Terminals; Body 3 x 3 mm; Pitch 0.5 mm)
pins: 0 PAD, 1 SWP1, 2 PGND1, 3 OUTP1 (out), 4 FBS (in), 5 SELP2 (in), 6 CT (power), 7 AGND, 8 EN (in), 9 SWIRE (in), 10 OUTN (out), 11 SWN (power), 12 PVIN, 13 OUTP2 (out), 14 PGND2, 15 SWP2, 16 AVIN

## TPS78233DDCR
designator U1
Low Q Current LDO Voltage Regulators 150mA
footprint SOT-23-5 (SOT-23-5 Leads; Body 3.1 x 3 mm, inc. leads (LxW max))
pins: 1 VIN (power), 2 GND, 3 EN (in), 4 GND, 5 Vout (out)

## TPS561201
designator U1
4.5V to 17V Input, 1A Synchronous Step-Down Voltage Regulator in 6-pin SOT-23
footprint SOT-23-6 (SOT-23-6 Leads; Body 3.1 x 3 mm, inc. leads (LxW max))
pins: 1 GND, 2 SW, 3 VIN, 4 VFB, 5 EN, 6 VBST

## TSL25911FN
designator U1
Light Sensor, HDR
footprint DFN-6-P0.65MM
pins: 1 SCL, 2 INT, 3 GND, 4 NC, 5 VDD, 6 SDA

## TXS0104EPWR
designator U1
Translation - Voltage Levels 4B Bidrctnl Vltg-Lvl Translator
footprint TSSOP-14-P0.65MM-W4.4MM (Shrink Small Outline, TSSOP; 14 Leads; Body Width 4.4 mm; Pitch 0.65 mm)
pins: 1 VCCA (power), 2 A1 (io), 3 A2 (io), 4 A3 (io), 5 A4 (io), 6 NC, 7 GND (power), 8 OE (in), 9 NC, 10 B4 (io), 11 B3 (io), 12 B2 (io), 13 B1 (io), 14 VCCB (power)

## TXS0104ERGY
designator U1
Translation - Voltage Levels 4B Bidrctnl Vltg-Lvl Translator
footprint VQFN-20 - (RGY) (Quad Flat No Lead, Plastic; 14 Terminals; Body 5 x 5 mm; Pitch 0.5mm)
pins: 0 GND (power), 1 VCCA (power), 2 A1 (io), 3 A2 (io), 4 A3 (io), 5 A4 (io), 6 NC, 7 GND (power), 8 OE (in), 9 NC, 10 B4 (io), 11 B3 (io), 12 B2 (io), 13 B1 (io), 14 VCCB (power)

## TXS0108EPWR
designator U1
Translation - Voltage Levels 8B Bidir Vltg-Level Translator
footprint TSSOP-20-P0.65MM-W4.4MM (Shrink Small Outline; 20 Leads; Body Width 4.4 mm; Pitch 0.65 mm)
pins: 1 A1 (io), 2 VCCA (power), 3 A2 (io), 4 A3 (io), 5 A4 (io), 6 A5 (io), 7 A6 (io), 8 A7 (io), 9 A8 (io), 10 OE (in), 11 GND, 12 B8 (io), 13 B7 (io), 14 B6 (io), 15 B5 (io), 16 B4 (io), 17 B3 (io), 18 B2 (io), 19 VCCB (power), 20 B1 (io)

## UCC27714
designator U1
ISOLATED GATE DRIVER; LCSC Part #: C461849
footprint SOIC-14-W3.5
pins: 1 HI, 2 LI, 3 VSS, 4 EN/NC, 5 COM, 6 LO, 7 VDD, 11 HS, 12 HO, 13 HB

## USB2512B
designator U1
USB Interface IC USB 2.0 High-Speed 2 Port Hub CTRL
footprint QFN-36 - P0.5MM (Quad Flat No Lead; 32 Terminals; Body 5 x 5 mm; Pitch 0.5 mm)
pins: 0 VSS, 1 USB1D_N, 2 USB1D_P, 3 USB2D_N, 4 USB2D_P, 5 VDDA33, 6 NC, 7 NC, 8 NC, 9 NC, 10 VDDA33, 11 TEST, 12 PRT_PWR1, 13 OCS_N1, 14 CRFILT, 15 VDD33, 16 PRT_PWR2, 17 OCS_N2, 18 NC, 19 NC, 20 NC, 21 NC, 22 SDA, 23 VDD33, 24 SCL/CFG_SEL0, 25 HS_IND/CFG_SEL1, 26 RESETN, 27 VBUS_DET, 28 SUSP_IND, 29 VDDA33, 30 USBUPD_N, 31 USBUPD_P, 32 XTALOUT, 33 XTALIN, 34 PLLFILT, 35 RDBIAS, 36 VDDA33